# Altium integrated library Altera MAX 7000AE.IntLib: 310 symbols (part 2 of 22)
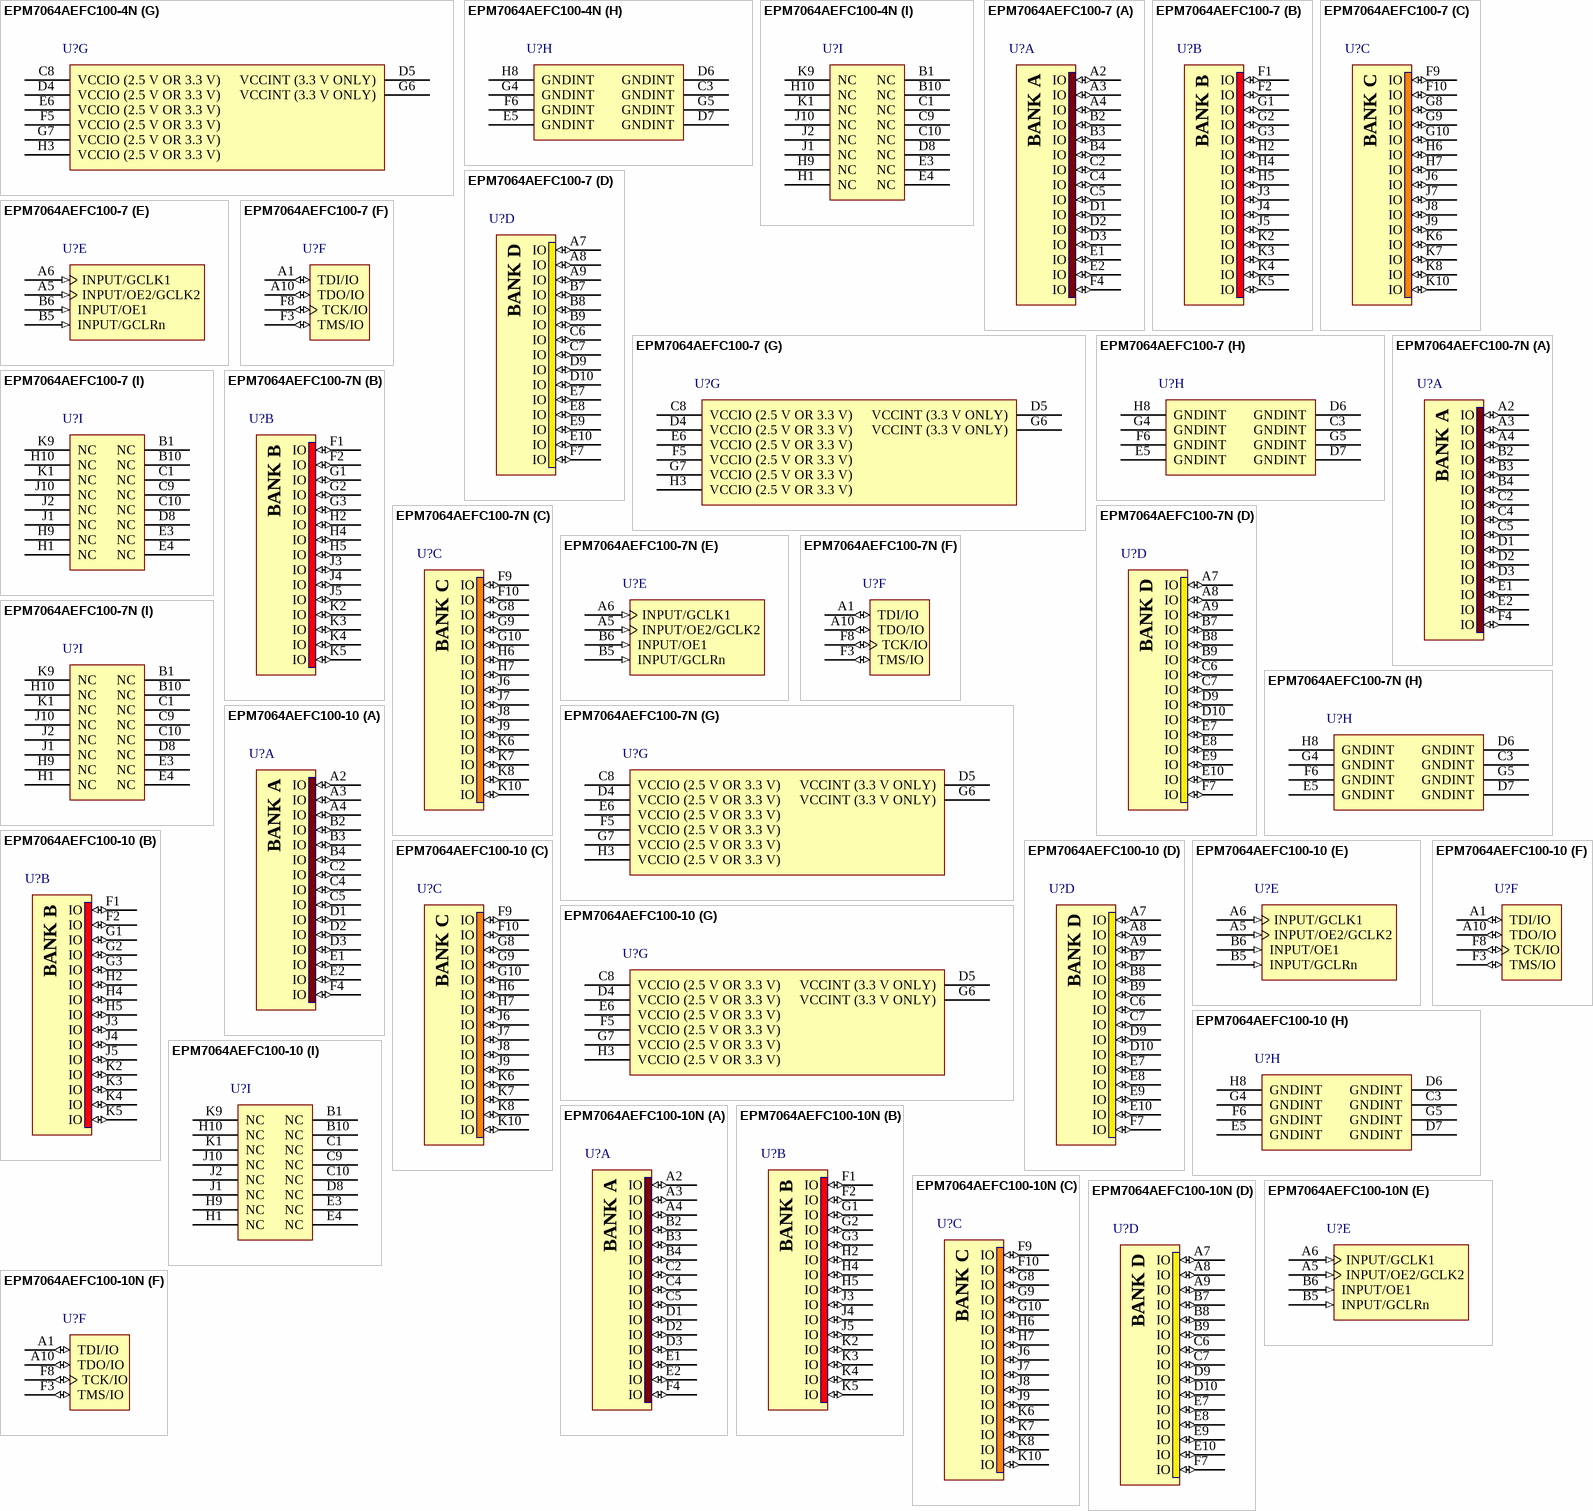
[diagram p122: symbols EPM7064AEFC100-4N to EPM7064AEFC100-10N]

## EPM7064AEFC100-4N
designator U?
MAX 7000AE 3.3V CPLD, 64 Macrocells, 100-Pin FineLine BGA, Speed Grade 4, Commercial Grade, Pb-Free; Published: 18-Aug-2005; LatestRevisionDate: 13-Apr-2006; LatestRevisionNote: IPC-7351 Footprint Added.; DatasheetVersion: ver4.5, Sep-2003; PackageVersion: ver14.3, Jul-2006; PackageReference: FBGA100; Publisher: Altium Limited; PackageDescription: 100-Ball FineLine Ball Grid Array (FBGA100); Code_JEDEC: MO-192-AAC-1; Code_IPC: BGA100P10X10-100; ComponentLink1Description: Manufacturer Link; ComponentLink1URL: http://www.altera.com/products/devices/max7k/m7k-index.html; ComponentLink2Description: Datasheet; ComponentLink2URL: http://www.altera.com/literature/ds/m7000a.pdf; ComponentLink3Description: Packaging Specification; ComponentLink3URL: http://www.altera.com/literature/ds/dspkg.pdf
footprint FBGA100 (BGA, 100-Leads, Body 11x11mm, Pitch 1mm)
3D model EPM7064AE-FBGA100 (100-Ball FineLine Ball Grid Array (FBGA100))
signal-integrity model max7kae (MAX 7000AE)
part A pins: A2 IO (io), A3 IO (io), A4 IO (io), B2 IO (io), B3 IO (io), B4 IO (io), C2 IO (io), C4 IO (io), C5 IO (io), D1 IO (io), D2 IO (io), D3 IO (io), E1 IO (io), E2 IO (io), F4 IO (io)
part B pins: F1 IO (io), F2 IO (io), G1 IO (io), G2 IO (io), G3 IO (io), H2 IO (io), H4 IO (io), H5 IO (io), J3 IO (io), J4 IO (io), J5 IO (io), K2 IO (io), K3 IO (io), K4 IO (io), K5 IO (io)
part C pins: F9 IO (io), F10 IO (io), G8 IO (io), G9 IO (io), G10 IO (io), H6 IO (io), H7 IO (io), J6 IO (io), J7 IO (io), J8 IO (io), J9 IO (io), K6 IO (io), K7 IO (io), K8 IO (io), K10 IO (io)
part D pins: A7 IO (io), A8 IO (io), A9 IO (io), B7 IO (io), B8 IO (io), B9 IO (io), C6 IO (io), C7 IO (io), D9 IO (io), D10 IO (io), E7 IO (io), E8 IO (io), E9 IO (io), E10 IO (io), F7 IO (io)
part E pins: A5 INPUT/OE2/GCLK2 (in), A6 INPUT/GCLK1 (in), B5 INPUT/GCLRn (in), B6 INPUT/OE1 (in)
part F pins: A1 TDI/IO (io), A10 TDO/IO (io), F3 TMS/IO (io), F8 TCK/IO (io)
part G pins: C8 VCCIO (2.5 V OR 3.3 V) (power), D4 VCCIO (2.5 V OR 3.3 V) (power), D5 VCCINT (3.3 V ONLY) (power), E6 VCCIO (2.5 V OR 3.3 V) (power), F5 VCCIO (2.5 V OR 3.3 V) (power), G6 VCCINT (3.3 V ONLY) (power), G7 VCCIO (2.5 V OR 3.3 V) (power), H3 VCCIO (2.5 V OR 3.3 V) (power)
part H pins: C3 GNDINT (power), D6 GNDINT (power), D7 GNDINT (power), E5 GNDINT (power), F6 GNDINT (power), G4 GNDINT (power), G5 GNDINT (power), H8 GNDINT (power)
part I pins: B1 NC, B10 NC, C1 NC, C9 NC, C10 NC, D8 NC, E3 NC, E4 NC, H1 NC, H9 NC, H10 NC, J1 NC, J2 NC, J10 NC, K1 NC, K9 NC
part A text: BANK A
part B text: BANK B
part C text: BANK C
part D text: BANK D

## EPM7064AEFC100-7
designator U?
MAX 7000AE 3.3V CPLD, 64 Macrocells, 100-Pin FineLine BGA, Speed Grade 7, Commercial Grade; Published: 23-Sep-2002; LatestRevisionDate: 13-Apr-2006; LatestRevisionNote: IPC-7351 Footprint Added.; DatasheetVersion: ver4.5, Sep-2003; PackageVersion: ver14.3, Jul-2006; PackageReference: FBGA100; Publisher: Altium Limited; PackageDescription: 100-Ball FineLine Ball Grid Array (FBGA100); Code_JEDEC: MO-192-AAC-1; Code_IPC: BGA100P10X10-100; ComponentLink1Description: Manufacturer Link; ComponentLink1URL: http://www.altera.com/products/devices/max7k/m7k-index.html; ComponentLink2Description: Datasheet; ComponentLink2URL: http://www.altera.com/literature/ds/m7000a.pdf; ComponentLink3Description: Packaging Specification; ComponentLink3URL: http://www.altera.com/literature/ds/dspkg.pdf
footprint FBGA100 (BGA, 100-Leads, Body 11x11mm, Pitch 1mm)
3D model EPM7064AE-FBGA100 (100-Ball FineLine Ball Grid Array (FBGA100))
signal-integrity model max7kae (MAX 7000AE)
part A pins: A2 IO (io), A3 IO (io), A4 IO (io), B2 IO (io), B3 IO (io), B4 IO (io), C2 IO (io), C4 IO (io), C5 IO (io), D1 IO (io), D2 IO (io), D3 IO (io), E1 IO (io), E2 IO (io), F4 IO (io)
part B pins: F1 IO (io), F2 IO (io), G1 IO (io), G2 IO (io), G3 IO (io), H2 IO (io), H4 IO (io), H5 IO (io), J3 IO (io), J4 IO (io), J5 IO (io), K2 IO (io), K3 IO (io), K4 IO (io), K5 IO (io)
part C pins: F9 IO (io), F10 IO (io), G8 IO (io), G9 IO (io), G10 IO (io), H6 IO (io), H7 IO (io), J6 IO (io), J7 IO (io), J8 IO (io), J9 IO (io), K6 IO (io), K7 IO (io), K8 IO (io), K10 IO (io)
part D pins: A7 IO (io), A8 IO (io), A9 IO (io), B7 IO (io), B8 IO (io), B9 IO (io), C6 IO (io), C7 IO (io), D9 IO (io), D10 IO (io), E7 IO (io), E8 IO (io), E9 IO (io), E10 IO (io), F7 IO (io)
part E pins: A5 INPUT/OE2/GCLK2 (in), A6 INPUT/GCLK1 (in), B5 INPUT/GCLRn (in), B6 INPUT/OE1 (in)
part F pins: A1 TDI/IO (io), A10 TDO/IO (io), F3 TMS/IO (io), F8 TCK/IO (io)
part G pins: C8 VCCIO (2.5 V OR 3.3 V) (power), D4 VCCIO (2.5 V OR 3.3 V) (power), D5 VCCINT (3.3 V ONLY) (power), E6 VCCIO (2.5 V OR 3.3 V) (power), F5 VCCIO (2.5 V OR 3.3 V) (power), G6 VCCINT (3.3 V ONLY) (power), G7 VCCIO (2.5 V OR 3.3 V) (power), H3 VCCIO (2.5 V OR 3.3 V) (power)
part H pins: C3 GNDINT (power), D6 GNDINT (power), D7 GNDINT (power), E5 GNDINT (power), F6 GNDINT (power), G4 GNDINT (power), G5 GNDINT (power), H8 GNDINT (power)
part I pins: B1 NC, B10 NC, C1 NC, C9 NC, C10 NC, D8 NC, E3 NC, E4 NC, H1 NC, H9 NC, H10 NC, J1 NC, J2 NC, J10 NC, K1 NC, K9 NC
part A text: BANK A
part B text: BANK B
part C text: BANK C
part D text: BANK D

## EPM7064AEFC100-7N
designator U?
MAX 7000AE 3.3V CPLD, 64 Macrocells, 100-Pin FineLine BGA, Speed Grade 7, Commercial Grade, Pb-Free; Published: 4-Mar-2005; LatestRevisionDate: 13-Apr-2006; LatestRevisionNote: IPC-7351 Footprint Added.; DatasheetVersion: ver4.5, Sep-2003; PackageVersion: ver14.3, Jul-2006; PackageReference: FBGA100; Publisher: Altium Limited; PackageDescription: 100-Ball FineLine Ball Grid Array (FBGA100); Code_JEDEC: MO-192-AAC-1; Code_IPC: BGA100P10X10-100; ComponentLink1Description: Manufacturer Link; ComponentLink1URL: http://www.altera.com/products/devices/max7k/m7k-index.html; ComponentLink2Description: Datasheet; ComponentLink2URL: http://www.altera.com/literature/ds/m7000a.pdf; ComponentLink3Description: Packaging Specification; ComponentLink3URL: http://www.altera.com/literature/ds/dspkg.pdf
footprint FBGA100 (BGA, 100-Leads, Body 11x11mm, Pitch 1mm)
3D model EPM7064AE-FBGA100 (100-Ball FineLine Ball Grid Array (FBGA100))
signal-integrity model max7kae (MAX 7000AE)
part A pins: A2 IO (io), A3 IO (io), A4 IO (io), B2 IO (io), B3 IO (io), B4 IO (io), C2 IO (io), C4 IO (io), C5 IO (io), D1 IO (io), D2 IO (io), D3 IO (io), E1 IO (io), E2 IO (io), F4 IO (io)
part B pins: F1 IO (io), F2 IO (io), G1 IO (io), G2 IO (io), G3 IO (io), H2 IO (io), H4 IO (io), H5 IO (io), J3 IO (io), J4 IO (io), J5 IO (io), K2 IO (io), K3 IO (io), K4 IO (io), K5 IO (io)
part C pins: F9 IO (io), F10 IO (io), G8 IO (io), G9 IO (io), G10 IO (io), H6 IO (io), H7 IO (io), J6 IO (io), J7 IO (io), J8 IO (io), J9 IO (io), K6 IO (io), K7 IO (io), K8 IO (io), K10 IO (io)
part D pins: A7 IO (io), A8 IO (io), A9 IO (io), B7 IO (io), B8 IO (io), B9 IO (io), C6 IO (io), C7 IO (io), D9 IO (io), D10 IO (io), E7 IO (io), E8 IO (io), E9 IO (io), E10 IO (io), F7 IO (io)
part E pins: A5 INPUT/OE2/GCLK2 (in), A6 INPUT/GCLK1 (in), B5 INPUT/GCLRn (in), B6 INPUT/OE1 (in)
part F pins: A1 TDI/IO (io), A10 TDO/IO (io), F3 TMS/IO (io), F8 TCK/IO (io)
part G pins: C8 VCCIO (2.5 V OR 3.3 V) (power), D4 VCCIO (2.5 V OR 3.3 V) (power), D5 VCCINT (3.3 V ONLY) (power), E6 VCCIO (2.5 V OR 3.3 V) (power), F5 VCCIO (2.5 V OR 3.3 V) (power), G6 VCCINT (3.3 V ONLY) (power), G7 VCCIO (2.5 V OR 3.3 V) (power), H3 VCCIO (2.5 V OR 3.3 V) (power)
part H pins: C3 GNDINT (power), D6 GNDINT (power), D7 GNDINT (power), E5 GNDINT (power), F6 GNDINT (power), G4 GNDINT (power), G5 GNDINT (power), H8 GNDINT (power)
part I pins: B1 NC, B10 NC, C1 NC, C9 NC, C10 NC, D8 NC, E3 NC, E4 NC, H1 NC, H9 NC, H10 NC, J1 NC, J2 NC, J10 NC, K1 NC, K9 NC
part A text: BANK A
part B text: BANK B
part C text: BANK C
part D text: BANK D

## EPM7064AEFC100-10
designator U?
MAX 7000AE 3.3V CPLD, 64 Macrocells, 100-Pin FineLine BGA, Speed Grade 10, Commercial Grade; Published: 23-Sep-2002; LatestRevisionDate: 13-Apr-2006; LatestRevisionNote: IPC-7351 Footprint Added.; DatasheetVersion: ver4.5, Sep-2003; PackageVersion: ver14.3, Jul-2006; PackageReference: FBGA100; Publisher: Altium Limited; PackageDescription: 100-Ball FineLine Ball Grid Array (FBGA100); Code_JEDEC: MO-192-AAC-1; Code_IPC: BGA100P10X10-100; ComponentLink1Description: Manufacturer Link; ComponentLink1URL: http://www.altera.com/products/devices/max7k/m7k-index.html; ComponentLink2Description: Datasheet; ComponentLink2URL: http://www.altera.com/literature/ds/m7000a.pdf; ComponentLink3Description: Packaging Specification; ComponentLink3URL: http://www.altera.com/literature/ds/dspkg.pdf
footprint FBGA100 (BGA, 100-Leads, Body 11x11mm, Pitch 1mm)
3D model EPM7064AE-FBGA100 (100-Ball FineLine Ball Grid Array (FBGA100))
signal-integrity model max7kae (MAX 7000AE)
part A pins: A2 IO (io), A3 IO (io), A4 IO (io), B2 IO (io), B3 IO (io), B4 IO (io), C2 IO (io), C4 IO (io), C5 IO (io), D1 IO (io), D2 IO (io), D3 IO (io), E1 IO (io), E2 IO (io), F4 IO (io)
part B pins: F1 IO (io), F2 IO (io), G1 IO (io), G2 IO (io), G3 IO (io), H2 IO (io), H4 IO (io), H5 IO (io), J3 IO (io), J4 IO (io), J5 IO (io), K2 IO (io), K3 IO (io), K4 IO (io), K5 IO (io)
part C pins: F9 IO (io), F10 IO (io), G8 IO (io), G9 IO (io), G10 IO (io), H6 IO (io), H7 IO (io), J6 IO (io), J7 IO (io), J8 IO (io), J9 IO (io), K6 IO (io), K7 IO (io), K8 IO (io), K10 IO (io)
part D pins: A7 IO (io), A8 IO (io), A9 IO (io), B7 IO (io), B8 IO (io), B9 IO (io), C6 IO (io), C7 IO (io), D9 IO (io), D10 IO (io), E7 IO (io), E8 IO (io), E9 IO (io), E10 IO (io), F7 IO (io)
part E pins: A5 INPUT/OE2/GCLK2 (in), A6 INPUT/GCLK1 (in), B5 INPUT/GCLRn (in), B6 INPUT/OE1 (in)
part F pins: A1 TDI/IO (io), A10 TDO/IO (io), F3 TMS/IO (io), F8 TCK/IO (io)
part G pins: C8 VCCIO (2.5 V OR 3.3 V) (power), D4 VCCIO (2.5 V OR 3.3 V) (power), D5 VCCINT (3.3 V ONLY) (power), E6 VCCIO (2.5 V OR 3.3 V) (power), F5 VCCIO (2.5 V OR 3.3 V) (power), G6 VCCINT (3.3 V ONLY) (power), G7 VCCIO (2.5 V OR 3.3 V) (power), H3 VCCIO (2.5 V OR 3.3 V) (power)
part H pins: C3 GNDINT (power), D6 GNDINT (power), D7 GNDINT (power), E5 GNDINT (power), F6 GNDINT (power), G4 GNDINT (power), G5 GNDINT (power), H8 GNDINT (power)
part I pins: B1 NC, B10 NC, C1 NC, C9 NC, C10 NC, D8 NC, E3 NC, E4 NC, H1 NC, H9 NC, H10 NC, J1 NC, J2 NC, J10 NC, K1 NC, K9 NC
part A text: BANK A
part B text: BANK B
part C text: BANK C
part D text: BANK D

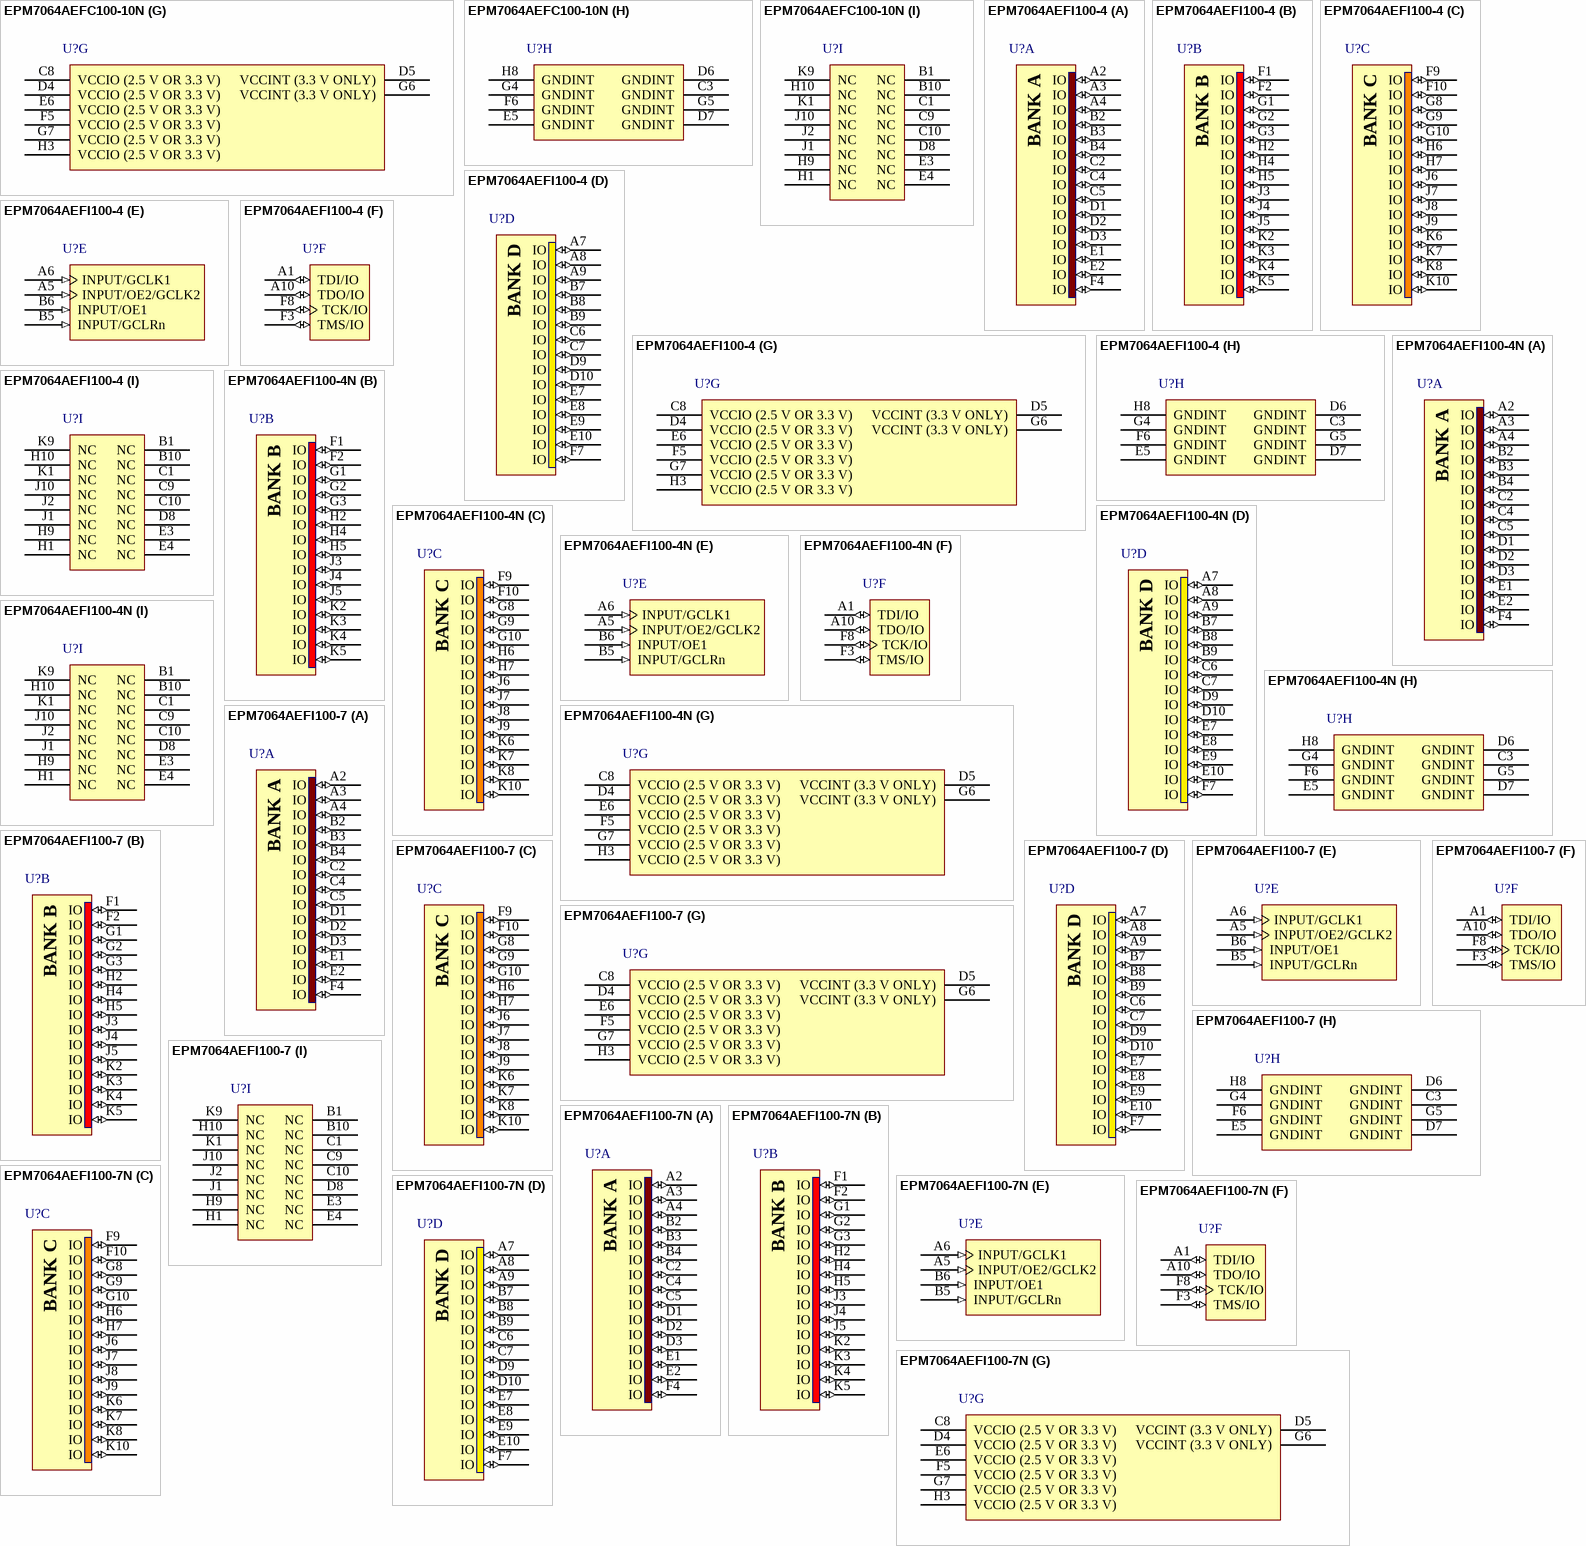
[diagram p5: symbols EPM7064AEFC100-10N to EPM7064AEFI100-7N]

## EPM7064AEFC100-10N
designator U?
MAX 7000AE 3.3V CPLD, 64 Macrocells, 100-Pin FineLine BGA, Speed Grade 10, Commercial Grade, Pb-Free; Published: 4-Mar-2005; LatestRevisionDate: 13-Apr-2006; LatestRevisionNote: IPC-7351 Footprint Added.; DatasheetVersion: ver4.5, Sep-2003; PackageVersion: ver14.3, Jul-2006; PackageReference: FBGA100; Publisher: Altium Limited; PackageDescription: 100-Ball FineLine Ball Grid Array (FBGA100); Code_JEDEC: MO-192-AAC-1; Code_IPC: BGA100P10X10-100; ComponentLink1Description: Manufacturer Link; ComponentLink1URL: http://www.altera.com/products/devices/max7k/m7k-index.html; ComponentLink2Description: Datasheet; ComponentLink2URL: http://www.altera.com/literature/ds/m7000a.pdf; ComponentLink3Description: Packaging Specification; ComponentLink3URL: http://www.altera.com/literature/ds/dspkg.pdf
footprint FBGA100 (BGA, 100-Leads, Body 11x11mm, Pitch 1mm)
3D model EPM7064AE-FBGA100 (100-Ball FineLine Ball Grid Array (FBGA100))
signal-integrity model max7kae (MAX 7000AE)
part A pins: A2 IO (io), A3 IO (io), A4 IO (io), B2 IO (io), B3 IO (io), B4 IO (io), C2 IO (io), C4 IO (io), C5 IO (io), D1 IO (io), D2 IO (io), D3 IO (io), E1 IO (io), E2 IO (io), F4 IO (io)
part B pins: F1 IO (io), F2 IO (io), G1 IO (io), G2 IO (io), G3 IO (io), H2 IO (io), H4 IO (io), H5 IO (io), J3 IO (io), J4 IO (io), J5 IO (io), K2 IO (io), K3 IO (io), K4 IO (io), K5 IO (io)
part C pins: F9 IO (io), F10 IO (io), G8 IO (io), G9 IO (io), G10 IO (io), H6 IO (io), H7 IO (io), J6 IO (io), J7 IO (io), J8 IO (io), J9 IO (io), K6 IO (io), K7 IO (io), K8 IO (io), K10 IO (io)
part D pins: A7 IO (io), A8 IO (io), A9 IO (io), B7 IO (io), B8 IO (io), B9 IO (io), C6 IO (io), C7 IO (io), D9 IO (io), D10 IO (io), E7 IO (io), E8 IO (io), E9 IO (io), E10 IO (io), F7 IO (io)
part E pins: A5 INPUT/OE2/GCLK2 (in), A6 INPUT/GCLK1 (in), B5 INPUT/GCLRn (in), B6 INPUT/OE1 (in)
part F pins: A1 TDI/IO (io), A10 TDO/IO (io), F3 TMS/IO (io), F8 TCK/IO (io)
part G pins: C8 VCCIO (2.5 V OR 3.3 V) (power), D4 VCCIO (2.5 V OR 3.3 V) (power), D5 VCCINT (3.3 V ONLY) (power), E6 VCCIO (2.5 V OR 3.3 V) (power), F5 VCCIO (2.5 V OR 3.3 V) (power), G6 VCCINT (3.3 V ONLY) (power), G7 VCCIO (2.5 V OR 3.3 V) (power), H3 VCCIO (2.5 V OR 3.3 V) (power)
part H pins: C3 GNDINT (power), D6 GNDINT (power), D7 GNDINT (power), E5 GNDINT (power), F6 GNDINT (power), G4 GNDINT (power), G5 GNDINT (power), H8 GNDINT (power)
part I pins: B1 NC, B10 NC, C1 NC, C9 NC, C10 NC, D8 NC, E3 NC, E4 NC, H1 NC, H9 NC, H10 NC, J1 NC, J2 NC, J10 NC, K1 NC, K9 NC
part A text: BANK A
part B text: BANK B
part C text: BANK C
part D text: BANK D

## EPM7064AEFI100-4
designator U?
MAX 7000AE 3.3V CPLD, 64 Macrocells, 100-Pin FineLine BGA, Speed Grade 4, Industrial Grade; Published: 18-Aug-2005; LatestRevisionDate: 13-Apr-2006; LatestRevisionNote: IPC-7351 Footprint Added.; DatasheetVersion: ver4.5, Sep-2003; PackageVersion: ver14.3, Jul-2006; PackageReference: FBGA100; Publisher: Altium Limited; PackageDescription: 100-Ball FineLine Ball Grid Array (FBGA100); Code_JEDEC: MO-192-AAC-1; Code_IPC: BGA100P10X10-100; ComponentLink1Description: Manufacturer Link; ComponentLink1URL: http://www.altera.com/products/devices/max7k/m7k-index.html; ComponentLink2Description: Datasheet; ComponentLink2URL: http://www.altera.com/literature/ds/m7000a.pdf; ComponentLink3Description: Packaging Specification; ComponentLink3URL: http://www.altera.com/literature/ds/dspkg.pdf
footprint FBGA100 (BGA, 100-Leads, Body 11x11mm, Pitch 1mm)
3D model EPM7064AE-FBGA100 (100-Ball FineLine Ball Grid Array (FBGA100))
signal-integrity model max7kae (MAX 7000AE)
part A pins: A2 IO (io), A3 IO (io), A4 IO (io), B2 IO (io), B3 IO (io), B4 IO (io), C2 IO (io), C4 IO (io), C5 IO (io), D1 IO (io), D2 IO (io), D3 IO (io), E1 IO (io), E2 IO (io), F4 IO (io)
part B pins: F1 IO (io), F2 IO (io), G1 IO (io), G2 IO (io), G3 IO (io), H2 IO (io), H4 IO (io), H5 IO (io), J3 IO (io), J4 IO (io), J5 IO (io), K2 IO (io), K3 IO (io), K4 IO (io), K5 IO (io)
part C pins: F9 IO (io), F10 IO (io), G8 IO (io), G9 IO (io), G10 IO (io), H6 IO (io), H7 IO (io), J6 IO (io), J7 IO (io), J8 IO (io), J9 IO (io), K6 IO (io), K7 IO (io), K8 IO (io), K10 IO (io)
part D pins: A7 IO (io), A8 IO (io), A9 IO (io), B7 IO (io), B8 IO (io), B9 IO (io), C6 IO (io), C7 IO (io), D9 IO (io), D10 IO (io), E7 IO (io), E8 IO (io), E9 IO (io), E10 IO (io), F7 IO (io)
part E pins: A5 INPUT/OE2/GCLK2 (in), A6 INPUT/GCLK1 (in), B5 INPUT/GCLRn (in), B6 INPUT/OE1 (in)
part F pins: A1 TDI/IO (io), A10 TDO/IO (io), F3 TMS/IO (io), F8 TCK/IO (io)
part G pins: C8 VCCIO (2.5 V OR 3.3 V) (power), D4 VCCIO (2.5 V OR 3.3 V) (power), D5 VCCINT (3.3 V ONLY) (power), E6 VCCIO (2.5 V OR 3.3 V) (power), F5 VCCIO (2.5 V OR 3.3 V) (power), G6 VCCINT (3.3 V ONLY) (power), G7 VCCIO (2.5 V OR 3.3 V) (power), H3 VCCIO (2.5 V OR 3.3 V) (power)
part H pins: C3 GNDINT (power), D6 GNDINT (power), D7 GNDINT (power), E5 GNDINT (power), F6 GNDINT (power), G4 GNDINT (power), G5 GNDINT (power), H8 GNDINT (power)
part I pins: B1 NC, B10 NC, C1 NC, C9 NC, C10 NC, D8 NC, E3 NC, E4 NC, H1 NC, H9 NC, H10 NC, J1 NC, J2 NC, J10 NC, K1 NC, K9 NC
part A text: BANK A
part B text: BANK B
part C text: BANK C
part D text: BANK D

## EPM7064AEFI100-4N
designator U?
MAX 7000AE 3.3V CPLD, 64 Macrocells, 100-Pin FineLine BGA, Speed Grade 4, Industrial Grade, Pb-Free; Published: 18-Aug-2005; LatestRevisionDate: 13-Apr-2006; LatestRevisionNote: IPC-7351 Footprint Added.; DatasheetVersion: ver4.5, Sep-2003; PackageVersion: ver14.3, Jul-2006; PackageReference: FBGA100; Publisher: Altium Limited; PackageDescription: 100-Ball FineLine Ball Grid Array (FBGA100); Code_JEDEC: MO-192-AAC-1; Code_IPC: BGA100P10X10-100; ComponentLink1Description: Manufacturer Link; ComponentLink1URL: http://www.altera.com/products/devices/max7k/m7k-index.html; ComponentLink2Description: Datasheet; ComponentLink2URL: http://www.altera.com/literature/ds/m7000a.pdf; ComponentLink3Description: Packaging Specification; ComponentLink3URL: http://www.altera.com/literature/ds/dspkg.pdf
footprint FBGA100 (BGA, 100-Leads, Body 11x11mm, Pitch 1mm)
3D model EPM7064AE-FBGA100 (100-Ball FineLine Ball Grid Array (FBGA100))
signal-integrity model max7kae (MAX 7000AE)
part A pins: A2 IO (io), A3 IO (io), A4 IO (io), B2 IO (io), B3 IO (io), B4 IO (io), C2 IO (io), C4 IO (io), C5 IO (io), D1 IO (io), D2 IO (io), D3 IO (io), E1 IO (io), E2 IO (io), F4 IO (io)
part B pins: F1 IO (io), F2 IO (io), G1 IO (io), G2 IO (io), G3 IO (io), H2 IO (io), H4 IO (io), H5 IO (io), J3 IO (io), J4 IO (io), J5 IO (io), K2 IO (io), K3 IO (io), K4 IO (io), K5 IO (io)
part C pins: F9 IO (io), F10 IO (io), G8 IO (io), G9 IO (io), G10 IO (io), H6 IO (io), H7 IO (io), J6 IO (io), J7 IO (io), J8 IO (io), J9 IO (io), K6 IO (io), K7 IO (io), K8 IO (io), K10 IO (io)
part D pins: A7 IO (io), A8 IO (io), A9 IO (io), B7 IO (io), B8 IO (io), B9 IO (io), C6 IO (io), C7 IO (io), D9 IO (io), D10 IO (io), E7 IO (io), E8 IO (io), E9 IO (io), E10 IO (io), F7 IO (io)
part E pins: A5 INPUT/OE2/GCLK2 (in), A6 INPUT/GCLK1 (in), B5 INPUT/GCLRn (in), B6 INPUT/OE1 (in)
part F pins: A1 TDI/IO (io), A10 TDO/IO (io), F3 TMS/IO (io), F8 TCK/IO (io)
part G pins: C8 VCCIO (2.5 V OR 3.3 V) (power), D4 VCCIO (2.5 V OR 3.3 V) (power), D5 VCCINT (3.3 V ONLY) (power), E6 VCCIO (2.5 V OR 3.3 V) (power), F5 VCCIO (2.5 V OR 3.3 V) (power), G6 VCCINT (3.3 V ONLY) (power), G7 VCCIO (2.5 V OR 3.3 V) (power), H3 VCCIO (2.5 V OR 3.3 V) (power)
part H pins: C3 GNDINT (power), D6 GNDINT (power), D7 GNDINT (power), E5 GNDINT (power), F6 GNDINT (power), G4 GNDINT (power), G5 GNDINT (power), H8 GNDINT (power)
part I pins: B1 NC, B10 NC, C1 NC, C9 NC, C10 NC, D8 NC, E3 NC, E4 NC, H1 NC, H9 NC, H10 NC, J1 NC, J2 NC, J10 NC, K1 NC, K9 NC
part A text: BANK A
part B text: BANK B
part C text: BANK C
part D text: BANK D

## EPM7064AEFI100-7
designator U?
MAX 7000AE 3.3V CPLD, 64 Macrocells, 100-Pin FineLine BGA, Speed Grade 7, Industrial Grade; Published: 18-Aug-2005; LatestRevisionDate: 13-Apr-2006; LatestRevisionNote: IPC-7351 Footprint Added.; DatasheetVersion: ver4.5, Sep-2003; PackageVersion: ver14.3, Jul-2006; PackageReference: FBGA100; Publisher: Altium Limited; PackageDescription: 100-Ball FineLine Ball Grid Array (FBGA100); Code_JEDEC: MO-192-AAC-1; Code_IPC: BGA100P10X10-100; ComponentLink1Description: Manufacturer Link; ComponentLink1URL: http://www.altera.com/products/devices/max7k/m7k-index.html; ComponentLink2Description: Datasheet; ComponentLink2URL: http://www.altera.com/literature/ds/m7000a.pdf; ComponentLink3Description: Packaging Specification; ComponentLink3URL: http://www.altera.com/literature/ds/dspkg.pdf
footprint FBGA100 (BGA, 100-Leads, Body 11x11mm, Pitch 1mm)
3D model EPM7064AE-FBGA100 (100-Ball FineLine Ball Grid Array (FBGA100))
signal-integrity model max7kae (MAX 7000AE)
part A pins: A2 IO (io), A3 IO (io), A4 IO (io), B2 IO (io), B3 IO (io), B4 IO (io), C2 IO (io), C4 IO (io), C5 IO (io), D1 IO (io), D2 IO (io), D3 IO (io), E1 IO (io), E2 IO (io), F4 IO (io)
part B pins: F1 IO (io), F2 IO (io), G1 IO (io), G2 IO (io), G3 IO (io), H2 IO (io), H4 IO (io), H5 IO (io), J3 IO (io), J4 IO (io), J5 IO (io), K2 IO (io), K3 IO (io), K4 IO (io), K5 IO (io)
part C pins: F9 IO (io), F10 IO (io), G8 IO (io), G9 IO (io), G10 IO (io), H6 IO (io), H7 IO (io), J6 IO (io), J7 IO (io), J8 IO (io), J9 IO (io), K6 IO (io), K7 IO (io), K8 IO (io), K10 IO (io)
part D pins: A7 IO (io), A8 IO (io), A9 IO (io), B7 IO (io), B8 IO (io), B9 IO (io), C6 IO (io), C7 IO (io), D9 IO (io), D10 IO (io), E7 IO (io), E8 IO (io), E9 IO (io), E10 IO (io), F7 IO (io)
part E pins: A5 INPUT/OE2/GCLK2 (in), A6 INPUT/GCLK1 (in), B5 INPUT/GCLRn (in), B6 INPUT/OE1 (in)
part F pins: A1 TDI/IO (io), A10 TDO/IO (io), F3 TMS/IO (io), F8 TCK/IO (io)
part G pins: C8 VCCIO (2.5 V OR 3.3 V) (power), D4 VCCIO (2.5 V OR 3.3 V) (power), D5 VCCINT (3.3 V ONLY) (power), E6 VCCIO (2.5 V OR 3.3 V) (power), F5 VCCIO (2.5 V OR 3.3 V) (power), G6 VCCINT (3.3 V ONLY) (power), G7 VCCIO (2.5 V OR 3.3 V) (power), H3 VCCIO (2.5 V OR 3.3 V) (power)
part H pins: C3 GNDINT (power), D6 GNDINT (power), D7 GNDINT (power), E5 GNDINT (power), F6 GNDINT (power), G4 GNDINT (power), G5 GNDINT (power), H8 GNDINT (power)
part I pins: B1 NC, B10 NC, C1 NC, C9 NC, C10 NC, D8 NC, E3 NC, E4 NC, H1 NC, H9 NC, H10 NC, J1 NC, J2 NC, J10 NC, K1 NC, K9 NC
part A text: BANK A
part B text: BANK B
part C text: BANK C
part D text: BANK D

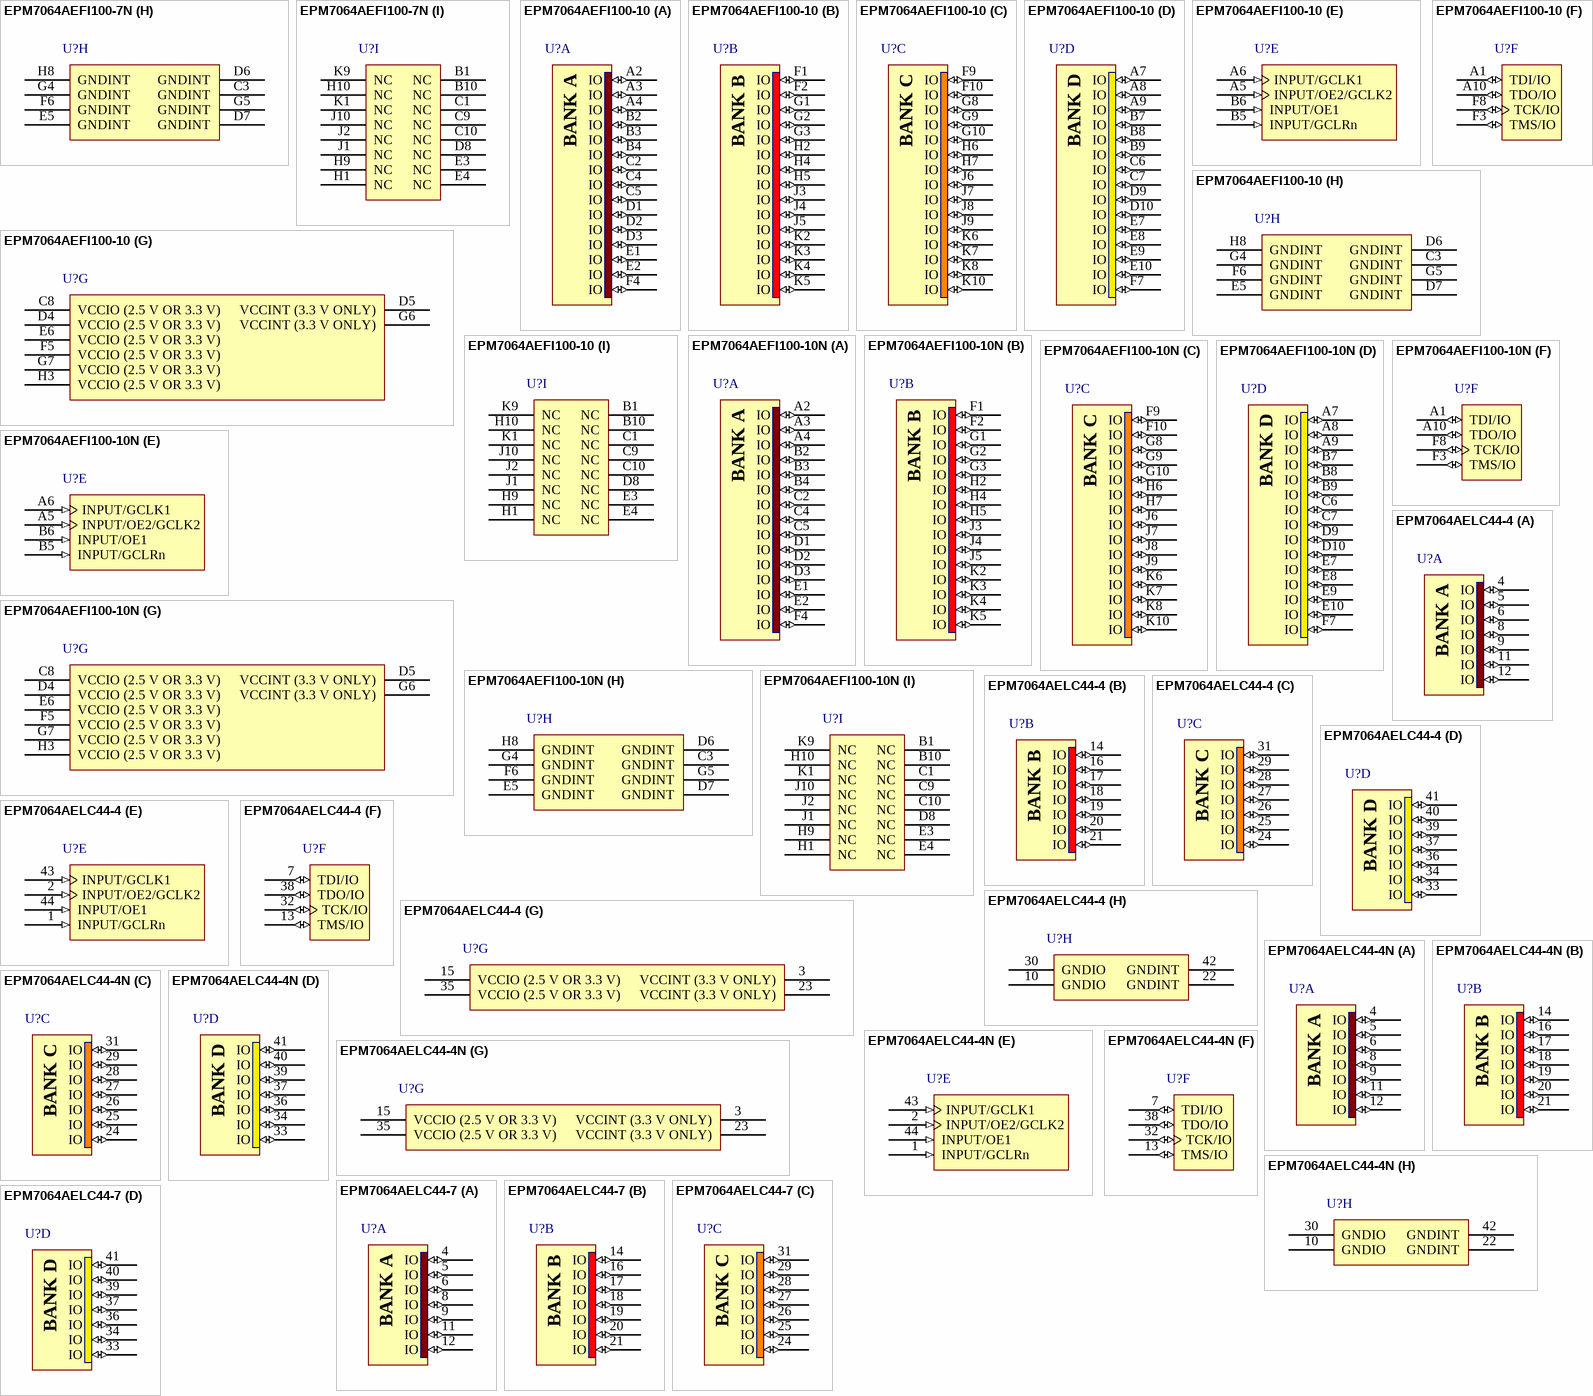
[diagram p6: symbols EPM7064AEFI100-7N to EPM7064AELC44-7]

## EPM7064AEFI100-7N
designator U?
MAX 7000AE 3.3V CPLD, 64 Macrocells, 100-Pin FineLine BGA, Speed Grade 7, Industrial Grade, Pb-Free; Published: 18-Aug-2005; LatestRevisionDate: 13-Apr-2006; LatestRevisionNote: IPC-7351 Footprint Added.; DatasheetVersion: ver4.5, Sep-2003; PackageVersion: ver14.3, Jul-2006; PackageReference: FBGA100; Publisher: Altium Limited; PackageDescription: 100-Ball FineLine Ball Grid Array (FBGA100); Code_JEDEC: MO-192-AAC-1; Code_IPC: BGA100P10X10-100; ComponentLink1Description: Manufacturer Link; ComponentLink1URL: http://www.altera.com/products/devices/max7k/m7k-index.html; ComponentLink2Description: Datasheet; ComponentLink2URL: http://www.altera.com/literature/ds/m7000a.pdf; ComponentLink3Description: Packaging Specification; ComponentLink3URL: http://www.altera.com/literature/ds/dspkg.pdf
footprint FBGA100 (BGA, 100-Leads, Body 11x11mm, Pitch 1mm)
3D model EPM7064AE-FBGA100 (100-Ball FineLine Ball Grid Array (FBGA100))
signal-integrity model max7kae (MAX 7000AE)
part A pins: A2 IO (io), A3 IO (io), A4 IO (io), B2 IO (io), B3 IO (io), B4 IO (io), C2 IO (io), C4 IO (io), C5 IO (io), D1 IO (io), D2 IO (io), D3 IO (io), E1 IO (io), E2 IO (io), F4 IO (io)
part B pins: F1 IO (io), F2 IO (io), G1 IO (io), G2 IO (io), G3 IO (io), H2 IO (io), H4 IO (io), H5 IO (io), J3 IO (io), J4 IO (io), J5 IO (io), K2 IO (io), K3 IO (io), K4 IO (io), K5 IO (io)
part C pins: F9 IO (io), F10 IO (io), G8 IO (io), G9 IO (io), G10 IO (io), H6 IO (io), H7 IO (io), J6 IO (io), J7 IO (io), J8 IO (io), J9 IO (io), K6 IO (io), K7 IO (io), K8 IO (io), K10 IO (io)
part D pins: A7 IO (io), A8 IO (io), A9 IO (io), B7 IO (io), B8 IO (io), B9 IO (io), C6 IO (io), C7 IO (io), D9 IO (io), D10 IO (io), E7 IO (io), E8 IO (io), E9 IO (io), E10 IO (io), F7 IO (io)
part E pins: A5 INPUT/OE2/GCLK2 (in), A6 INPUT/GCLK1 (in), B5 INPUT/GCLRn (in), B6 INPUT/OE1 (in)
part F pins: A1 TDI/IO (io), A10 TDO/IO (io), F3 TMS/IO (io), F8 TCK/IO (io)
part G pins: C8 VCCIO (2.5 V OR 3.3 V) (power), D4 VCCIO (2.5 V OR 3.3 V) (power), D5 VCCINT (3.3 V ONLY) (power), E6 VCCIO (2.5 V OR 3.3 V) (power), F5 VCCIO (2.5 V OR 3.3 V) (power), G6 VCCINT (3.3 V ONLY) (power), G7 VCCIO (2.5 V OR 3.3 V) (power), H3 VCCIO (2.5 V OR 3.3 V) (power)
part H pins: C3 GNDINT (power), D6 GNDINT (power), D7 GNDINT (power), E5 GNDINT (power), F6 GNDINT (power), G4 GNDINT (power), G5 GNDINT (power), H8 GNDINT (power)
part I pins: B1 NC, B10 NC, C1 NC, C9 NC, C10 NC, D8 NC, E3 NC, E4 NC, H1 NC, H9 NC, H10 NC, J1 NC, J2 NC, J10 NC, K1 NC, K9 NC
part A text: BANK A
part B text: BANK B
part C text: BANK C
part D text: BANK D

## EPM7064AEFI100-10
designator U?
MAX 7000AE 3.3V CPLD, 64 Macrocells, 100-Pin FineLine BGA, Speed Grade 10, Industrial Grade; Published: 18-Aug-2005; LatestRevisionDate: 13-Apr-2006; LatestRevisionNote: IPC-7351 Footprint Added.; DatasheetVersion: ver4.5, Sep-2003; PackageVersion: ver14.3, Jul-2006; PackageReference: FBGA100; Publisher: Altium Limited; PackageDescription: 100-Ball FineLine Ball Grid Array (FBGA100); Code_JEDEC: MO-192-AAC-1; Code_IPC: BGA100P10X10-100; ComponentLink1Description: Manufacturer Link; ComponentLink1URL: http://www.altera.com/products/devices/max7k/m7k-index.html; ComponentLink2Description: Datasheet; ComponentLink2URL: http://www.altera.com/literature/ds/m7000a.pdf; ComponentLink3Description: Packaging Specification; ComponentLink3URL: http://www.altera.com/literature/ds/dspkg.pdf
footprint FBGA100 (BGA, 100-Leads, Body 11x11mm, Pitch 1mm)
3D model EPM7064AE-FBGA100 (100-Ball FineLine Ball Grid Array (FBGA100))
signal-integrity model max7kae (MAX 7000AE)
part A pins: A2 IO (io), A3 IO (io), A4 IO (io), B2 IO (io), B3 IO (io), B4 IO (io), C2 IO (io), C4 IO (io), C5 IO (io), D1 IO (io), D2 IO (io), D3 IO (io), E1 IO (io), E2 IO (io), F4 IO (io)
part B pins: F1 IO (io), F2 IO (io), G1 IO (io), G2 IO (io), G3 IO (io), H2 IO (io), H4 IO (io), H5 IO (io), J3 IO (io), J4 IO (io), J5 IO (io), K2 IO (io), K3 IO (io), K4 IO (io), K5 IO (io)
part C pins: F9 IO (io), F10 IO (io), G8 IO (io), G9 IO (io), G10 IO (io), H6 IO (io), H7 IO (io), J6 IO (io), J7 IO (io), J8 IO (io), J9 IO (io), K6 IO (io), K7 IO (io), K8 IO (io), K10 IO (io)
part D pins: A7 IO (io), A8 IO (io), A9 IO (io), B7 IO (io), B8 IO (io), B9 IO (io), C6 IO (io), C7 IO (io), D9 IO (io), D10 IO (io), E7 IO (io), E8 IO (io), E9 IO (io), E10 IO (io), F7 IO (io)
part E pins: A5 INPUT/OE2/GCLK2 (in), A6 INPUT/GCLK1 (in), B5 INPUT/GCLRn (in), B6 INPUT/OE1 (in)
part F pins: A1 TDI/IO (io), A10 TDO/IO (io), F3 TMS/IO (io), F8 TCK/IO (io)
part G pins: C8 VCCIO (2.5 V OR 3.3 V) (power), D4 VCCIO (2.5 V OR 3.3 V) (power), D5 VCCINT (3.3 V ONLY) (power), E6 VCCIO (2.5 V OR 3.3 V) (power), F5 VCCIO (2.5 V OR 3.3 V) (power), G6 VCCINT (3.3 V ONLY) (power), G7 VCCIO (2.5 V OR 3.3 V) (power), H3 VCCIO (2.5 V OR 3.3 V) (power)
part H pins: C3 GNDINT (power), D6 GNDINT (power), D7 GNDINT (power), E5 GNDINT (power), F6 GNDINT (power), G4 GNDINT (power), G5 GNDINT (power), H8 GNDINT (power)
part I pins: B1 NC, B10 NC, C1 NC, C9 NC, C10 NC, D8 NC, E3 NC, E4 NC, H1 NC, H9 NC, H10 NC, J1 NC, J2 NC, J10 NC, K1 NC, K9 NC
part A text: BANK A
part B text: BANK B
part C text: BANK C
part D text: BANK D

## EPM7064AEFI100-10N
designator U?
MAX 7000AE 3.3V CPLD, 64 Macrocells, 100-Pin FineLine BGA, Speed Grade 10, Industrial Grade, Pb-Free; Published: 18-Aug-2005; LatestRevisionDate: 13-Apr-2006; LatestRevisionNote: IPC-7351 Footprint Added.; DatasheetVersion: ver4.5, Sep-2003; PackageVersion: ver14.3, Jul-2006; PackageReference: FBGA100; Publisher: Altium Limited; PackageDescription: 100-Ball FineLine Ball Grid Array (FBGA100); Code_JEDEC: MO-192-AAC-1; Code_IPC: BGA100P10X10-100; ComponentLink1Description: Manufacturer Link; ComponentLink1URL: http://www.altera.com/products/devices/max7k/m7k-index.html; ComponentLink2Description: Datasheet; ComponentLink2URL: http://www.altera.com/literature/ds/m7000a.pdf; ComponentLink3Description: Packaging Specification; ComponentLink3URL: http://www.altera.com/literature/ds/dspkg.pdf
footprint FBGA100 (BGA, 100-Leads, Body 11x11mm, Pitch 1mm)
3D model EPM7064AE-FBGA100 (100-Ball FineLine Ball Grid Array (FBGA100))
signal-integrity model max7kae (MAX 7000AE)
part A pins: A2 IO (io), A3 IO (io), A4 IO (io), B2 IO (io), B3 IO (io), B4 IO (io), C2 IO (io), C4 IO (io), C5 IO (io), D1 IO (io), D2 IO (io), D3 IO (io), E1 IO (io), E2 IO (io), F4 IO (io)
part B pins: F1 IO (io), F2 IO (io), G1 IO (io), G2 IO (io), G3 IO (io), H2 IO (io), H4 IO (io), H5 IO (io), J3 IO (io), J4 IO (io), J5 IO (io), K2 IO (io), K3 IO (io), K4 IO (io), K5 IO (io)
part C pins: F9 IO (io), F10 IO (io), G8 IO (io), G9 IO (io), G10 IO (io), H6 IO (io), H7 IO (io), J6 IO (io), J7 IO (io), J8 IO (io), J9 IO (io), K6 IO (io), K7 IO (io), K8 IO (io), K10 IO (io)
part D pins: A7 IO (io), A8 IO (io), A9 IO (io), B7 IO (io), B8 IO (io), B9 IO (io), C6 IO (io), C7 IO (io), D9 IO (io), D10 IO (io), E7 IO (io), E8 IO (io), E9 IO (io), E10 IO (io), F7 IO (io)
part E pins: A5 INPUT/OE2/GCLK2 (in), A6 INPUT/GCLK1 (in), B5 INPUT/GCLRn (in), B6 INPUT/OE1 (in)
part F pins: A1 TDI/IO (io), A10 TDO/IO (io), F3 TMS/IO (io), F8 TCK/IO (io)
part G pins: C8 VCCIO (2.5 V OR 3.3 V) (power), D4 VCCIO (2.5 V OR 3.3 V) (power), D5 VCCINT (3.3 V ONLY) (power), E6 VCCIO (2.5 V OR 3.3 V) (power), F5 VCCIO (2.5 V OR 3.3 V) (power), G6 VCCINT (3.3 V ONLY) (power), G7 VCCIO (2.5 V OR 3.3 V) (power), H3 VCCIO (2.5 V OR 3.3 V) (power)
part H pins: C3 GNDINT (power), D6 GNDINT (power), D7 GNDINT (power), E5 GNDINT (power), F6 GNDINT (power), G4 GNDINT (power), G5 GNDINT (power), H8 GNDINT (power)
part I pins: B1 NC, B10 NC, C1 NC, C9 NC, C10 NC, D8 NC, E3 NC, E4 NC, H1 NC, H9 NC, H10 NC, J1 NC, J2 NC, J10 NC, K1 NC, K9 NC
part A text: BANK A
part B text: BANK B
part C text: BANK C
part D text: BANK D

## EPM7064AELC44-4
designator U?
MAX 7000AE 3.3V CPLD, 64 Macrocells, 44-Pin PLCC, Speed Grade 4, Commercial Grade; Published: 23-Sep-2002; LatestRevisionDate: 13-Apr-2006; LatestRevisionNote: IPC-7351 Footprint Added.; DatasheetVersion: ver4.5, Sep-2003; PackageVersion: ver14.3, Jul-2006; PackageReference: PLCC44; Publisher: Altium Limited; PackageDescription: 44-Pin Plastic J-Lead Chip Carrier (PLCC44); Code_JEDEC: MS-018-AC; Code_IPC: PLCC-44; ComponentLink1Description: Manufacturer Link; ComponentLink1URL: http://www.altera.com/products/devices/max7k/m7k-index.html; ComponentLink2Description: Datasheet; ComponentLink2URL: http://www.altera.com/literature/ds/m7000a.pdf; ComponentLink3Description: Packaging Specification; ComponentLink3URL: http://www.altera.com/literature/ds/dspkg.pdf
footprint PLCC44_N (Leaded Chip Carrier, 44-Leads, Body 16.6x16.6mm, Pitch 1.27mm, IPC Medium Density)
footprint PLCC44_L (Leaded Chip Carrier, 44-Leads, Body 16.6x16.6mm, Pitch 1.27mm, IPC High Density)
footprint PLCC44_M (Leaded Chip Carrier, 44-Leads, Body 16.6x16.6mm, Pitch 1.27mm, IPC Low Density)
3D model EPM7064AE-PLCC44 (44-Pin Plastic J-Lead Chip Carrier (PLCC44))
signal-integrity model max7kae (MAX 7000AE)
part A pins: 4 IO (io), 5 IO (io), 6 IO (io), 8 IO (io), 9 IO (io), 11 IO (io), 12 IO (io)
part B pins: 14 IO (io), 16 IO (io), 17 IO (io), 18 IO (io), 19 IO (io), 20 IO (io), 21 IO (io)
part C pins: 24 IO (io), 25 IO (io), 26 IO (io), 27 IO (io), 28 IO (io), 29 IO (io), 31 IO (io)
part D pins: 33 IO (io), 34 IO (io), 36 IO (io), 37 IO (io), 39 IO (io), 40 IO (io), 41 IO (io)
part E pins: 1 INPUT/GCLRn (in), 2 INPUT/OE2/GCLK2 (in), 43 INPUT/GCLK1 (in), 44 INPUT/OE1 (in)
part F pins: 7 TDI/IO (io), 13 TMS/IO (io), 32 TCK/IO (io), 38 TDO/IO (io)
part G pins: 3 VCCINT (3.3 V ONLY) (power), 15 VCCIO (2.5 V OR 3.3 V) (power), 23 VCCINT (3.3 V ONLY) (power), 35 VCCIO (2.5 V OR 3.3 V) (power)
part H pins: 10 GNDIO (power), 22 GNDINT (power), 30 GNDIO (power), 42 GNDINT (power)
part A text: BANK A
part B text: BANK B
part C text: BANK C
part D text: BANK D

## EPM7064AELC44-4N
designator U?
MAX 7000AE 3.3V CPLD, 64 Macrocells, 44-Pin PLCC, Speed Grade 4, Commercial Grade, Pb-Free; Published: 18-Aug-2005; LatestRevisionDate: 13-Apr-2006; LatestRevisionNote: IPC-7351 Footprint Added.; DatasheetVersion: ver4.5, Sep-2003; PackageVersion: ver14.3, Jul-2006; PackageReference: PLCC44; Publisher: Altium Limited; PackageDescription: 44-Pin Plastic J-Lead Chip Carrier (PLCC44); Code_JEDEC: MS-018-AC; Code_IPC: PLCC-44; ComponentLink1Description: Manufacturer Link; ComponentLink1URL: http://www.altera.com/products/devices/max7k/m7k-index.html; ComponentLink2Description: Datasheet; ComponentLink2URL: http://www.altera.com/literature/ds/m7000a.pdf; ComponentLink3Description: Packaging Specification; ComponentLink3URL: http://www.altera.com/literature/ds/dspkg.pdf
footprint PLCC44_N (Leaded Chip Carrier, 44-Leads, Body 16.6x16.6mm, Pitch 1.27mm, IPC Medium Density)
footprint PLCC44_L (Leaded Chip Carrier, 44-Leads, Body 16.6x16.6mm, Pitch 1.27mm, IPC High Density)
footprint PLCC44_M (Leaded Chip Carrier, 44-Leads, Body 16.6x16.6mm, Pitch 1.27mm, IPC Low Density)
3D model EPM7064AE-PLCC44 (44-Pin Plastic J-Lead Chip Carrier (PLCC44))
signal-integrity model max7kae (MAX 7000AE)
part A pins: 4 IO (io), 5 IO (io), 6 IO (io), 8 IO (io), 9 IO (io), 11 IO (io), 12 IO (io)
part B pins: 14 IO (io), 16 IO (io), 17 IO (io), 18 IO (io), 19 IO (io), 20 IO (io), 21 IO (io)
part C pins: 24 IO (io), 25 IO (io), 26 IO (io), 27 IO (io), 28 IO (io), 29 IO (io), 31 IO (io)
part D pins: 33 IO (io), 34 IO (io), 36 IO (io), 37 IO (io), 39 IO (io), 40 IO (io), 41 IO (io)
part E pins: 1 INPUT/GCLRn (in), 2 INPUT/OE2/GCLK2 (in), 43 INPUT/GCLK1 (in), 44 INPUT/OE1 (in)
part F pins: 7 TDI/IO (io), 13 TMS/IO (io), 32 TCK/IO (io), 38 TDO/IO (io)
part G pins: 3 VCCINT (3.3 V ONLY) (power), 15 VCCIO (2.5 V OR 3.3 V) (power), 23 VCCINT (3.3 V ONLY) (power), 35 VCCIO (2.5 V OR 3.3 V) (power)
part H pins: 10 GNDIO (power), 22 GNDINT (power), 30 GNDIO (power), 42 GNDINT (power)
part A text: BANK A
part B text: BANK B
part C text: BANK C
part D text: BANK D

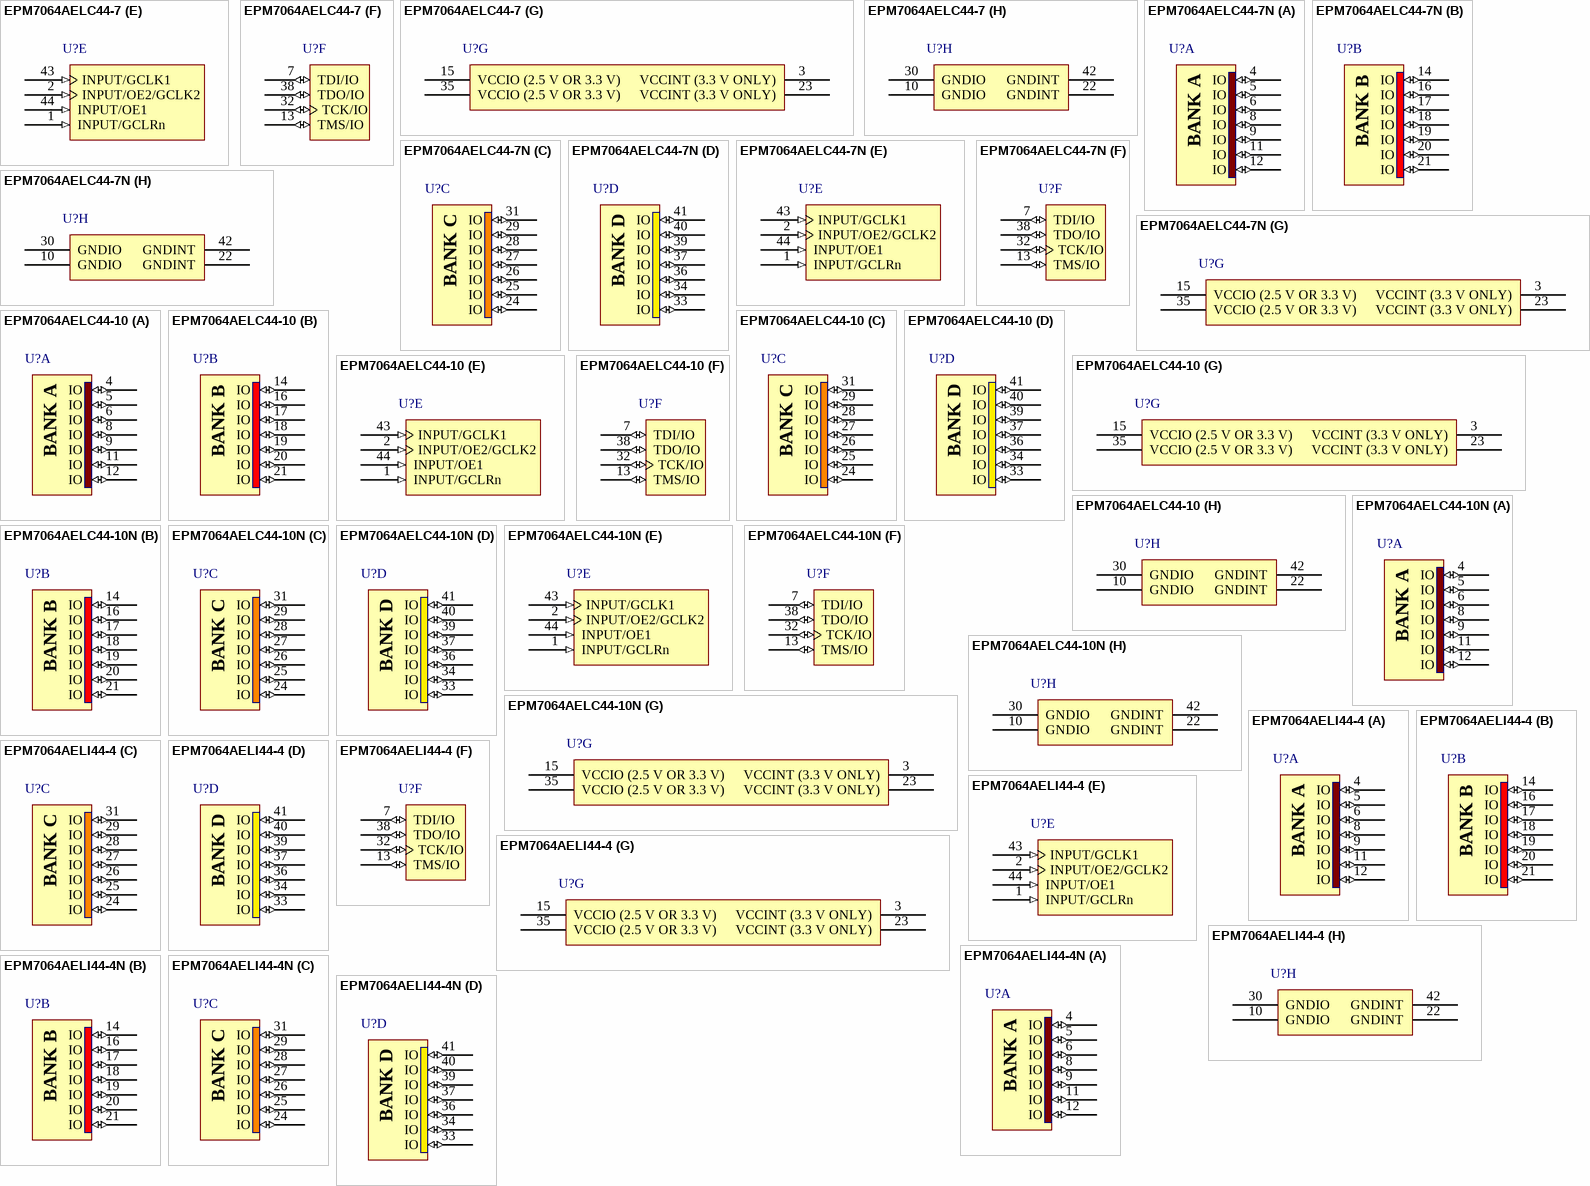
[diagram p7: symbols EPM7064AELC44-7 to EPM7064AELI44-4N]

## EPM7064AELC44-7
designator U?
MAX 7000AE 3.3V CPLD, 64 Macrocells, 44-Pin PLCC, Speed Grade 7, Commercial Grade; Published: 23-Sep-2002; LatestRevisionDate: 13-Apr-2006; LatestRevisionNote: IPC-7351 Footprint Added.; DatasheetVersion: ver4.5, Sep-2003; PackageVersion: ver14.3, Jul-2006; PackageReference: PLCC44; Publisher: Altium Limited; PackageDescription: 44-Pin Plastic J-Lead Chip Carrier (PLCC44); Code_JEDEC: MS-018-AC; Code_IPC: PLCC-44; ComponentLink1Description: Manufacturer Link; ComponentLink1URL: http://www.altera.com/products/devices/max7k/m7k-index.html; ComponentLink2Description: Datasheet; ComponentLink2URL: http://www.altera.com/literature/ds/m7000a.pdf; ComponentLink3Description: Packaging Specification; ComponentLink3URL: http://www.altera.com/literature/ds/dspkg.pdf
footprint PLCC44_N (Leaded Chip Carrier, 44-Leads, Body 16.6x16.6mm, Pitch 1.27mm, IPC Medium Density)
footprint PLCC44_L (Leaded Chip Carrier, 44-Leads, Body 16.6x16.6mm, Pitch 1.27mm, IPC High Density)
footprint PLCC44_M (Leaded Chip Carrier, 44-Leads, Body 16.6x16.6mm, Pitch 1.27mm, IPC Low Density)
3D model EPM7064AE-PLCC44 (44-Pin Plastic J-Lead Chip Carrier (PLCC44))
signal-integrity model max7kae (MAX 7000AE)
part A pins: 4 IO (io), 5 IO (io), 6 IO (io), 8 IO (io), 9 IO (io), 11 IO (io), 12 IO (io)
part B pins: 14 IO (io), 16 IO (io), 17 IO (io), 18 IO (io), 19 IO (io), 20 IO (io), 21 IO (io)
part C pins: 24 IO (io), 25 IO (io), 26 IO (io), 27 IO (io), 28 IO (io), 29 IO (io), 31 IO (io)
part D pins: 33 IO (io), 34 IO (io), 36 IO (io), 37 IO (io), 39 IO (io), 40 IO (io), 41 IO (io)
part E pins: 1 INPUT/GCLRn (in), 2 INPUT/OE2/GCLK2 (in), 43 INPUT/GCLK1 (in), 44 INPUT/OE1 (in)
part F pins: 7 TDI/IO (io), 13 TMS/IO (io), 32 TCK/IO (io), 38 TDO/IO (io)
part G pins: 3 VCCINT (3.3 V ONLY) (power), 15 VCCIO (2.5 V OR 3.3 V) (power), 23 VCCINT (3.3 V ONLY) (power), 35 VCCIO (2.5 V OR 3.3 V) (power)
part H pins: 10 GNDIO (power), 22 GNDINT (power), 30 GNDIO (power), 42 GNDINT (power)
part A text: BANK A
part B text: BANK B
part C text: BANK C
part D text: BANK D

## EPM7064AELC44-7N
designator U?
MAX 7000AE 3.3V CPLD, 64 Macrocells, 44-Pin PLCC, Speed Grade 7, Commercial Grade, Pb-Free; Published: 18-Aug-2005; LatestRevisionDate: 13-Apr-2006; LatestRevisionNote: IPC-7351 Footprint Added.; DatasheetVersion: ver4.5, Sep-2003; PackageVersion: ver14.3, Jul-2006; PackageReference: PLCC44; Publisher: Altium Limited; PackageDescription: 44-Pin Plastic J-Lead Chip Carrier (PLCC44); Code_JEDEC: MS-018-AC; Code_IPC: PLCC-44; ComponentLink1Description: Manufacturer Link; ComponentLink1URL: http://www.altera.com/products/devices/max7k/m7k-index.html; ComponentLink2Description: Datasheet; ComponentLink2URL: http://www.altera.com/literature/ds/m7000a.pdf; ComponentLink3Description: Packaging Specification; ComponentLink3URL: http://www.altera.com/literature/ds/dspkg.pdf
footprint PLCC44_N (Leaded Chip Carrier, 44-Leads, Body 16.6x16.6mm, Pitch 1.27mm, IPC Medium Density)
footprint PLCC44_L (Leaded Chip Carrier, 44-Leads, Body 16.6x16.6mm, Pitch 1.27mm, IPC High Density)
footprint PLCC44_M (Leaded Chip Carrier, 44-Leads, Body 16.6x16.6mm, Pitch 1.27mm, IPC Low Density)
3D model EPM7064AE-PLCC44 (44-Pin Plastic J-Lead Chip Carrier (PLCC44))
signal-integrity model max7kae (MAX 7000AE)
part A pins: 4 IO (io), 5 IO (io), 6 IO (io), 8 IO (io), 9 IO (io), 11 IO (io), 12 IO (io)
part B pins: 14 IO (io), 16 IO (io), 17 IO (io), 18 IO (io), 19 IO (io), 20 IO (io), 21 IO (io)
part C pins: 24 IO (io), 25 IO (io), 26 IO (io), 27 IO (io), 28 IO (io), 29 IO (io), 31 IO (io)
part D pins: 33 IO (io), 34 IO (io), 36 IO (io), 37 IO (io), 39 IO (io), 40 IO (io), 41 IO (io)
part E pins: 1 INPUT/GCLRn (in), 2 INPUT/OE2/GCLK2 (in), 43 INPUT/GCLK1 (in), 44 INPUT/OE1 (in)
part F pins: 7 TDI/IO (io), 13 TMS/IO (io), 32 TCK/IO (io), 38 TDO/IO (io)
part G pins: 3 VCCINT (3.3 V ONLY) (power), 15 VCCIO (2.5 V OR 3.3 V) (power), 23 VCCINT (3.3 V ONLY) (power), 35 VCCIO (2.5 V OR 3.3 V) (power)
part H pins: 10 GNDIO (power), 22 GNDINT (power), 30 GNDIO (power), 42 GNDINT (power)
part A text: BANK A
part B text: BANK B
part C text: BANK C
part D text: BANK D

## EPM7064AELC44-10
designator U?
MAX 7000AE 3.3V CPLD, 64 Macrocells, 44-Pin PLCC, Speed Grade 10, Commercial Grade; Published: 23-Sep-2002; LatestRevisionDate: 13-Apr-2006; LatestRevisionNote: IPC-7351 Footprint Added.; DatasheetVersion: ver4.5, Sep-2003; PackageVersion: ver14.3, Jul-2006; PackageReference: PLCC44; Publisher: Altium Limited; PackageDescription: 44-Pin Plastic J-Lead Chip Carrier (PLCC44); Code_JEDEC: MS-018-AC; Code_IPC: PLCC-44; ComponentLink1Description: Manufacturer Link; ComponentLink1URL: http://www.altera.com/products/devices/max7k/m7k-index.html; ComponentLink2Description: Datasheet; ComponentLink2URL: http://www.altera.com/literature/ds/m7000a.pdf; ComponentLink3Description: Packaging Specification; ComponentLink3URL: http://www.altera.com/literature/ds/dspkg.pdf
footprint PLCC44_N (Leaded Chip Carrier, 44-Leads, Body 16.6x16.6mm, Pitch 1.27mm, IPC Medium Density)
footprint PLCC44_L (Leaded Chip Carrier, 44-Leads, Body 16.6x16.6mm, Pitch 1.27mm, IPC High Density)
footprint PLCC44_M (Leaded Chip Carrier, 44-Leads, Body 16.6x16.6mm, Pitch 1.27mm, IPC Low Density)
3D model EPM7064AE-PLCC44 (44-Pin Plastic J-Lead Chip Carrier (PLCC44))
signal-integrity model max7kae (MAX 7000AE)
part A pins: 4 IO (io), 5 IO (io), 6 IO (io), 8 IO (io), 9 IO (io), 11 IO (io), 12 IO (io)
part B pins: 14 IO (io), 16 IO (io), 17 IO (io), 18 IO (io), 19 IO (io), 20 IO (io), 21 IO (io)
part C pins: 24 IO (io), 25 IO (io), 26 IO (io), 27 IO (io), 28 IO (io), 29 IO (io), 31 IO (io)
part D pins: 33 IO (io), 34 IO (io), 36 IO (io), 37 IO (io), 39 IO (io), 40 IO (io), 41 IO (io)
part E pins: 1 INPUT/GCLRn (in), 2 INPUT/OE2/GCLK2 (in), 43 INPUT/GCLK1 (in), 44 INPUT/OE1 (in)
part F pins: 7 TDI/IO (io), 13 TMS/IO (io), 32 TCK/IO (io), 38 TDO/IO (io)
part G pins: 3 VCCINT (3.3 V ONLY) (power), 15 VCCIO (2.5 V OR 3.3 V) (power), 23 VCCINT (3.3 V ONLY) (power), 35 VCCIO (2.5 V OR 3.3 V) (power)
part H pins: 10 GNDIO (power), 22 GNDINT (power), 30 GNDIO (power), 42 GNDINT (power)
part A text: BANK A
part B text: BANK B
part C text: BANK C
part D text: BANK D

## EPM7064AELC44-10N
designator U?
MAX 7000AE 3.3V CPLD, 64 Macrocells, 44-Pin PLCC, Speed Grade 10, Commercial Grade, Pb-Free; Published: 18-Aug-2005; LatestRevisionDate: 13-Apr-2006; LatestRevisionNote: IPC-7351 Footprint Added.; DatasheetVersion: ver4.5, Sep-2003; PackageVersion: ver14.3, Jul-2006; PackageReference: PLCC44; Publisher: Altium Limited; PackageDescription: 44-Pin Plastic J-Lead Chip Carrier (PLCC44); Code_JEDEC: MS-018-AC; Code_IPC: PLCC-44; ComponentLink1Description: Manufacturer Link; ComponentLink1URL: http://www.altera.com/products/devices/max7k/m7k-index.html; ComponentLink2Description: Datasheet; ComponentLink2URL: http://www.altera.com/literature/ds/m7000a.pdf; ComponentLink3Description: Packaging Specification; ComponentLink3URL: http://www.altera.com/literature/ds/dspkg.pdf
footprint PLCC44_N (Leaded Chip Carrier, 44-Leads, Body 16.6x16.6mm, Pitch 1.27mm, IPC Medium Density)
footprint PLCC44_L (Leaded Chip Carrier, 44-Leads, Body 16.6x16.6mm, Pitch 1.27mm, IPC High Density)
footprint PLCC44_M (Leaded Chip Carrier, 44-Leads, Body 16.6x16.6mm, Pitch 1.27mm, IPC Low Density)
3D model EPM7064AE-PLCC44 (44-Pin Plastic J-Lead Chip Carrier (PLCC44))
signal-integrity model max7kae (MAX 7000AE)
part A pins: 4 IO (io), 5 IO (io), 6 IO (io), 8 IO (io), 9 IO (io), 11 IO (io), 12 IO (io)
part B pins: 14 IO (io), 16 IO (io), 17 IO (io), 18 IO (io), 19 IO (io), 20 IO (io), 21 IO (io)
part C pins: 24 IO (io), 25 IO (io), 26 IO (io), 27 IO (io), 28 IO (io), 29 IO (io), 31 IO (io)
part D pins: 33 IO (io), 34 IO (io), 36 IO (io), 37 IO (io), 39 IO (io), 40 IO (io), 41 IO (io)
part E pins: 1 INPUT/GCLRn (in), 2 INPUT/OE2/GCLK2 (in), 43 INPUT/GCLK1 (in), 44 INPUT/OE1 (in)
part F pins: 7 TDI/IO (io), 13 TMS/IO (io), 32 TCK/IO (io), 38 TDO/IO (io)
part G pins: 3 VCCINT (3.3 V ONLY) (power), 15 VCCIO (2.5 V OR 3.3 V) (power), 23 VCCINT (3.3 V ONLY) (power), 35 VCCIO (2.5 V OR 3.3 V) (power)
part H pins: 10 GNDIO (power), 22 GNDINT (power), 30 GNDIO (power), 42 GNDINT (power)
part A text: BANK A
part B text: BANK B
part C text: BANK C
part D text: BANK D

## EPM7064AELI44-4
designator U?
MAX 7000AE 3.3V CPLD, 64 Macrocells, 44-Pin PLCC, Speed Grade 4, Industrial Grade; Published: 17-Sep-2003; LatestRevisionDate: 13-Apr-2006; LatestRevisionNote: IPC-7351 Footprint Added.; DatasheetVersion: ver4.5, Sep-2003; PackageVersion: ver14.3, Jul-2006; PackageReference: PLCC44; Publisher: Altium Limited; PackageDescription: 44-Pin Plastic J-Lead Chip Carrier (PLCC44); Code_JEDEC: MS-018-AC; Code_IPC: PLCC-44; ComponentLink1Description: Manufacturer Link; ComponentLink1URL: http://www.altera.com/products/devices/max7k/m7k-index.html; ComponentLink2Description: Datasheet; ComponentLink2URL: http://www.altera.com/literature/ds/m7000a.pdf; ComponentLink3Description: Packaging Specification; ComponentLink3URL: http://www.altera.com/literature/ds/dspkg.pdf
footprint PLCC44_N (Leaded Chip Carrier, 44-Leads, Body 16.6x16.6mm, Pitch 1.27mm, IPC Medium Density)
footprint PLCC44_L (Leaded Chip Carrier, 44-Leads, Body 16.6x16.6mm, Pitch 1.27mm, IPC High Density)
footprint PLCC44_M (Leaded Chip Carrier, 44-Leads, Body 16.6x16.6mm, Pitch 1.27mm, IPC Low Density)
3D model EPM7064AE-PLCC44 (44-Pin Plastic J-Lead Chip Carrier (PLCC44))
signal-integrity model max7kae (MAX 7000AE)
part A pins: 4 IO (io), 5 IO (io), 6 IO (io), 8 IO (io), 9 IO (io), 11 IO (io), 12 IO (io)
part B pins: 14 IO (io), 16 IO (io), 17 IO (io), 18 IO (io), 19 IO (io), 20 IO (io), 21 IO (io)
part C pins: 24 IO (io), 25 IO (io), 26 IO (io), 27 IO (io), 28 IO (io), 29 IO (io), 31 IO (io)
part D pins: 33 IO (io), 34 IO (io), 36 IO (io), 37 IO (io), 39 IO (io), 40 IO (io), 41 IO (io)
part E pins: 1 INPUT/GCLRn (in), 2 INPUT/OE2/GCLK2 (in), 43 INPUT/GCLK1 (in), 44 INPUT/OE1 (in)
part F pins: 7 TDI/IO (io), 13 TMS/IO (io), 32 TCK/IO (io), 38 TDO/IO (io)
part G pins: 3 VCCINT (3.3 V ONLY) (power), 15 VCCIO (2.5 V OR 3.3 V) (power), 23 VCCINT (3.3 V ONLY) (power), 35 VCCIO (2.5 V OR 3.3 V) (power)
part H pins: 10 GNDIO (power), 22 GNDINT (power), 30 GNDIO (power), 42 GNDINT (power)
part A text: BANK A
part B text: BANK B
part C text: BANK C
part D text: BANK D

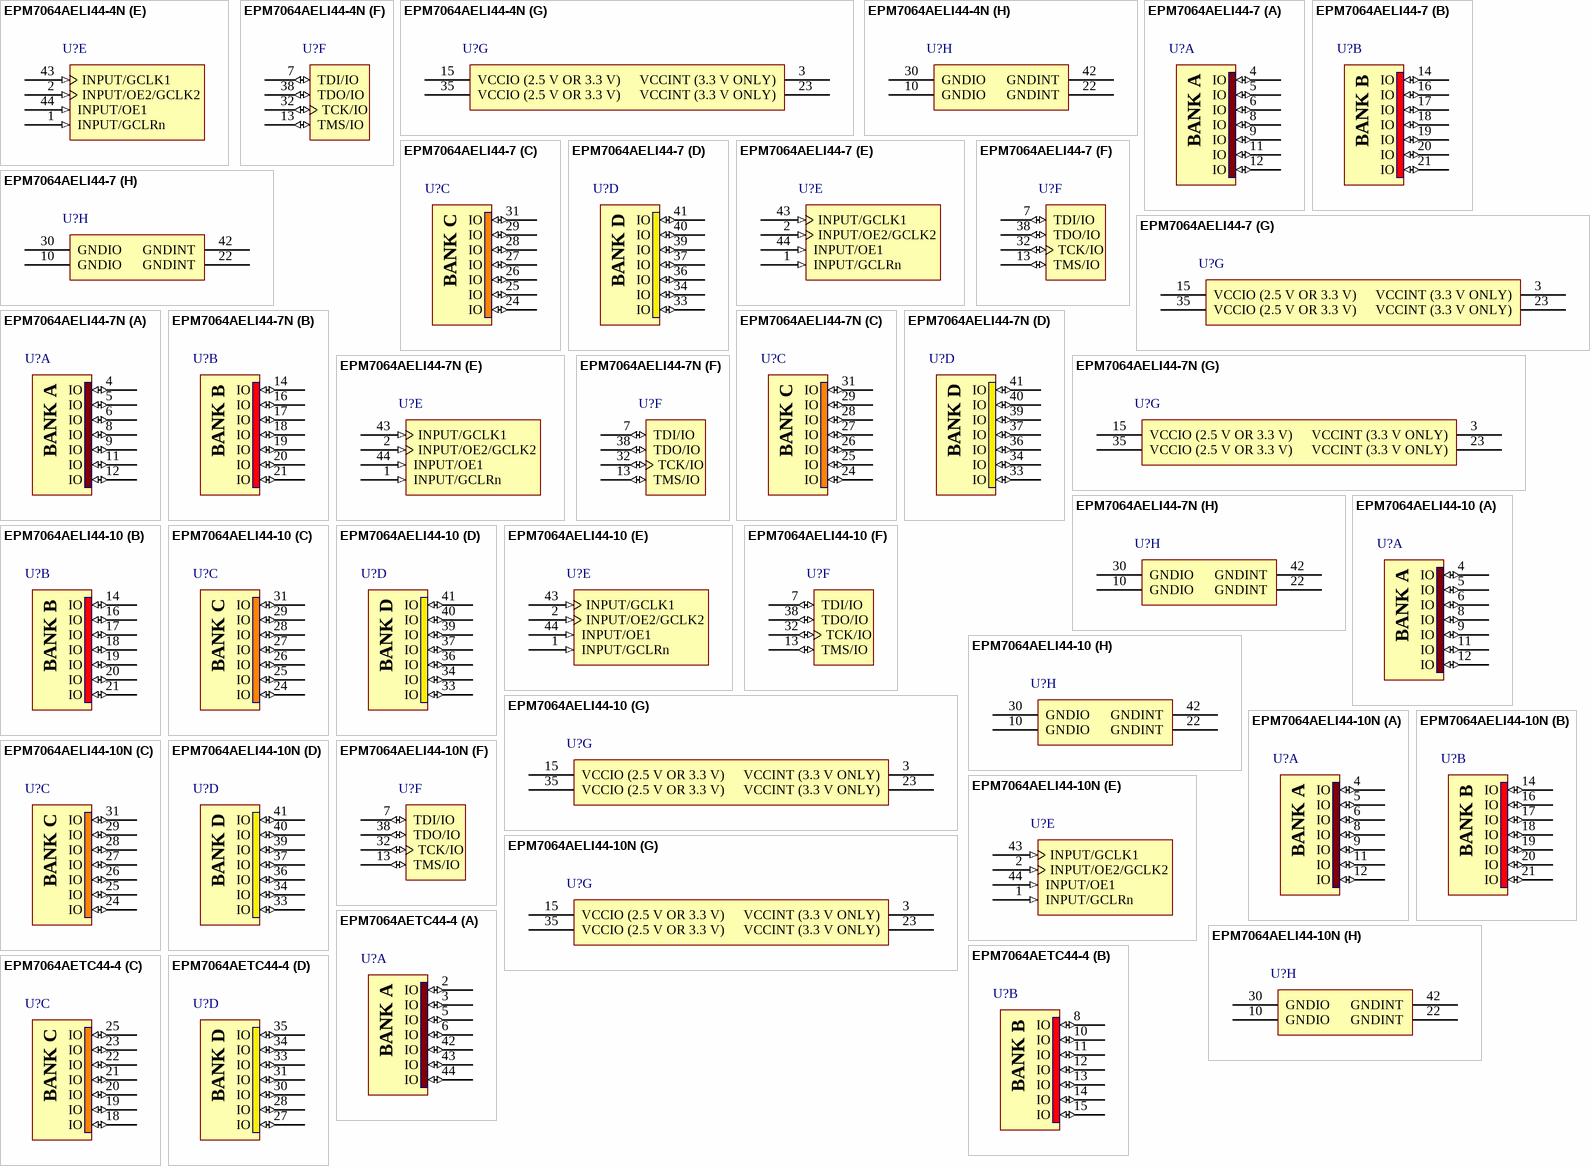
[diagram p8: symbols EPM7064AELI44-4N to EPM7064AETC44-4]

## EPM7064AELI44-4N
designator U?
MAX 7000AE 3.3V CPLD, 64 Macrocells, 44-Pin PLCC, Speed Grade 4, Industrial Grade, Pb-Free; Published: 18-Aug-2005; LatestRevisionDate: 13-Apr-2006; LatestRevisionNote: IPC-7351 Footprint Added.; DatasheetVersion: ver4.5, Sep-2003; PackageVersion: ver14.3, Jul-2006; PackageReference: PLCC44; Publisher: Altium Limited; PackageDescription: 44-Pin Plastic J-Lead Chip Carrier (PLCC44); Code_JEDEC: MS-018-AC; Code_IPC: PLCC-44; ComponentLink1Description: Manufacturer Link; ComponentLink1URL: http://www.altera.com/products/devices/max7k/m7k-index.html; ComponentLink2Description: Datasheet; ComponentLink2URL: http://www.altera.com/literature/ds/m7000a.pdf; ComponentLink3Description: Packaging Specification; ComponentLink3URL: http://www.altera.com/literature/ds/dspkg.pdf
footprint PLCC44_N (Leaded Chip Carrier, 44-Leads, Body 16.6x16.6mm, Pitch 1.27mm, IPC Medium Density)
footprint PLCC44_L (Leaded Chip Carrier, 44-Leads, Body 16.6x16.6mm, Pitch 1.27mm, IPC High Density)
footprint PLCC44_M (Leaded Chip Carrier, 44-Leads, Body 16.6x16.6mm, Pitch 1.27mm, IPC Low Density)
3D model EPM7064AE-PLCC44 (44-Pin Plastic J-Lead Chip Carrier (PLCC44))
signal-integrity model max7kae (MAX 7000AE)
part A pins: 4 IO (io), 5 IO (io), 6 IO (io), 8 IO (io), 9 IO (io), 11 IO (io), 12 IO (io)
part B pins: 14 IO (io), 16 IO (io), 17 IO (io), 18 IO (io), 19 IO (io), 20 IO (io), 21 IO (io)
part C pins: 24 IO (io), 25 IO (io), 26 IO (io), 27 IO (io), 28 IO (io), 29 IO (io), 31 IO (io)
part D pins: 33 IO (io), 34 IO (io), 36 IO (io), 37 IO (io), 39 IO (io), 40 IO (io), 41 IO (io)
part E pins: 1 INPUT/GCLRn (in), 2 INPUT/OE2/GCLK2 (in), 43 INPUT/GCLK1 (in), 44 INPUT/OE1 (in)
part F pins: 7 TDI/IO (io), 13 TMS/IO (io), 32 TCK/IO (io), 38 TDO/IO (io)
part G pins: 3 VCCINT (3.3 V ONLY) (power), 15 VCCIO (2.5 V OR 3.3 V) (power), 23 VCCINT (3.3 V ONLY) (power), 35 VCCIO (2.5 V OR 3.3 V) (power)
part H pins: 10 GNDIO (power), 22 GNDINT (power), 30 GNDIO (power), 42 GNDINT (power)
part A text: BANK A
part B text: BANK B
part C text: BANK C
part D text: BANK D

## EPM7064AELI44-7
designator U?
MAX 7000AE 3.3V CPLD, 64 Macrocells, 44-Pin PLCC, Speed Grade 7, Industrial Grade; Published: 23-Sep-2002; LatestRevisionDate: 13-Apr-2006; LatestRevisionNote: IPC-7351 Footprint Added.; DatasheetVersion: ver4.5, Sep-2003; PackageVersion: ver14.3, Jul-2006; PackageReference: PLCC44; Publisher: Altium Limited; PackageDescription: 44-Pin Plastic J-Lead Chip Carrier (PLCC44); Code_JEDEC: MS-018-AC; Code_IPC: PLCC-44; ComponentLink1Description: Manufacturer Link; ComponentLink1URL: http://www.altera.com/products/devices/max7k/m7k-index.html; ComponentLink2Description: Datasheet; ComponentLink2URL: http://www.altera.com/literature/ds/m7000a.pdf; ComponentLink3Description: Packaging Specification; ComponentLink3URL: http://www.altera.com/literature/ds/dspkg.pdf
footprint PLCC44_N (Leaded Chip Carrier, 44-Leads, Body 16.6x16.6mm, Pitch 1.27mm, IPC Medium Density)
footprint PLCC44_L (Leaded Chip Carrier, 44-Leads, Body 16.6x16.6mm, Pitch 1.27mm, IPC High Density)
footprint PLCC44_M (Leaded Chip Carrier, 44-Leads, Body 16.6x16.6mm, Pitch 1.27mm, IPC Low Density)
3D model EPM7064AE-PLCC44 (44-Pin Plastic J-Lead Chip Carrier (PLCC44))
signal-integrity model max7kae (MAX 7000AE)
part A pins: 4 IO (io), 5 IO (io), 6 IO (io), 8 IO (io), 9 IO (io), 11 IO (io), 12 IO (io)
part B pins: 14 IO (io), 16 IO (io), 17 IO (io), 18 IO (io), 19 IO (io), 20 IO (io), 21 IO (io)
part C pins: 24 IO (io), 25 IO (io), 26 IO (io), 27 IO (io), 28 IO (io), 29 IO (io), 31 IO (io)
part D pins: 33 IO (io), 34 IO (io), 36 IO (io), 37 IO (io), 39 IO (io), 40 IO (io), 41 IO (io)
part E pins: 1 INPUT/GCLRn (in), 2 INPUT/OE2/GCLK2 (in), 43 INPUT/GCLK1 (in), 44 INPUT/OE1 (in)
part F pins: 7 TDI/IO (io), 13 TMS/IO (io), 32 TCK/IO (io), 38 TDO/IO (io)
part G pins: 3 VCCINT (3.3 V ONLY) (power), 15 VCCIO (2.5 V OR 3.3 V) (power), 23 VCCINT (3.3 V ONLY) (power), 35 VCCIO (2.5 V OR 3.3 V) (power)
part H pins: 10 GNDIO (power), 22 GNDINT (power), 30 GNDIO (power), 42 GNDINT (power)
part A text: BANK A
part B text: BANK B
part C text: BANK C
part D text: BANK D

## EPM7064AELI44-7N
designator U?
MAX 7000AE 3.3V CPLD, 64 Macrocells, 44-Pin PLCC, Speed Grade 7, Industrial Grade, Pb-Free; Published: 18-Aug-2005; LatestRevisionDate: 13-Apr-2006; LatestRevisionNote: IPC-7351 Footprint Added.; DatasheetVersion: ver4.5, Sep-2003; PackageVersion: ver14.3, Jul-2006; PackageReference: PLCC44; Publisher: Altium Limited; PackageDescription: 44-Pin Plastic J-Lead Chip Carrier (PLCC44); Code_JEDEC: MS-018-AC; Code_IPC: PLCC-44; ComponentLink1Description: Manufacturer Link; ComponentLink1URL: http://www.altera.com/products/devices/max7k/m7k-index.html; ComponentLink2Description: Datasheet; ComponentLink2URL: http://www.altera.com/literature/ds/m7000a.pdf; ComponentLink3Description: Packaging Specification; ComponentLink3URL: http://www.altera.com/literature/ds/dspkg.pdf
footprint PLCC44_N (Leaded Chip Carrier, 44-Leads, Body 16.6x16.6mm, Pitch 1.27mm, IPC Medium Density)
footprint PLCC44_L (Leaded Chip Carrier, 44-Leads, Body 16.6x16.6mm, Pitch 1.27mm, IPC High Density)
footprint PLCC44_M (Leaded Chip Carrier, 44-Leads, Body 16.6x16.6mm, Pitch 1.27mm, IPC Low Density)
3D model EPM7064AE-PLCC44 (44-Pin Plastic J-Lead Chip Carrier (PLCC44))
signal-integrity model max7kae (MAX 7000AE)
part A pins: 4 IO (io), 5 IO (io), 6 IO (io), 8 IO (io), 9 IO (io), 11 IO (io), 12 IO (io)
part B pins: 14 IO (io), 16 IO (io), 17 IO (io), 18 IO (io), 19 IO (io), 20 IO (io), 21 IO (io)
part C pins: 24 IO (io), 25 IO (io), 26 IO (io), 27 IO (io), 28 IO (io), 29 IO (io), 31 IO (io)
part D pins: 33 IO (io), 34 IO (io), 36 IO (io), 37 IO (io), 39 IO (io), 40 IO (io), 41 IO (io)
part E pins: 1 INPUT/GCLRn (in), 2 INPUT/OE2/GCLK2 (in), 43 INPUT/GCLK1 (in), 44 INPUT/OE1 (in)
part F pins: 7 TDI/IO (io), 13 TMS/IO (io), 32 TCK/IO (io), 38 TDO/IO (io)
part G pins: 3 VCCINT (3.3 V ONLY) (power), 15 VCCIO (2.5 V OR 3.3 V) (power), 23 VCCINT (3.3 V ONLY) (power), 35 VCCIO (2.5 V OR 3.3 V) (power)
part H pins: 10 GNDIO (power), 22 GNDINT (power), 30 GNDIO (power), 42 GNDINT (power)
part A text: BANK A
part B text: BANK B
part C text: BANK C
part D text: BANK D